# Altium integrated library Infineon Microcontroller 32-bit TriCore AURIX.IntLib: 81 symbols (part 3 of 8)
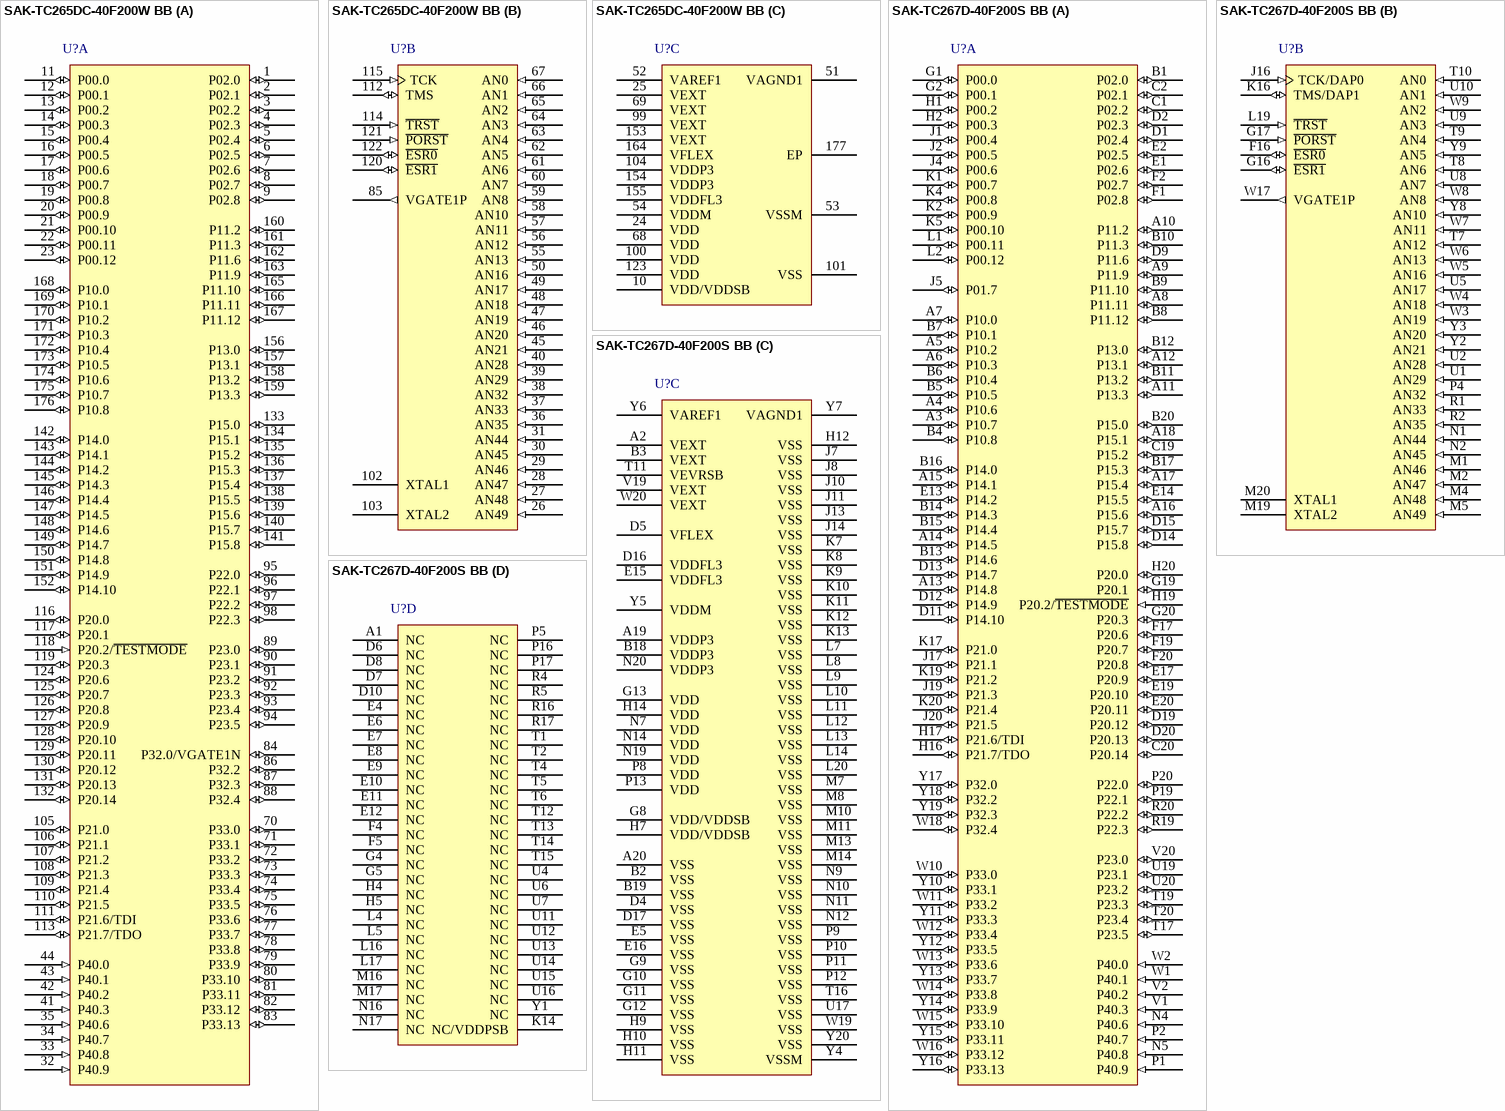
[diagram p37: symbols SAK-TC265DC-40F200W BB to SAK-TC267D-40F200S BB]

## SAK-TC267D-40F200S BB
designator U?
32-bit multi-core TriCore AURIX microcontroller with 240 KB SRAM, 2.5 MB Flash, 200 MHz Frequency, -40 to 125 degC, PG-LFBGA-292; Manufacturer: Infineon; ADC Chan.: 50; CAN FD: Yes; Core 0 TC16E DSPR (KB): 72; Core 0 TC16E PSPR (KB): 16; Core 1&2 TC16P DSPR (KB): 120; Core 1&2 TC16P PSPR (KB): 32; EEPROM (KB): 96 @125k; Flash (MB): 2.5; Freq. (MHz): 200; Total SRAM (KB): 240; Derivative: SAK-TC267D-40F200S BB; DatasheetVersion: Rev. 0.6; PackageReference: PG-LFBGA-292-6; PackageDescription: 292-Pin Plastic (Green) Low Profile Fine Pitch Ball Grid Array Package, 17 x 17 mm Body, 0.8 mm Pitch; Supplier 1: Mouser; Supplier Part Number 1: 726-TC267D40F200SBBK; ETH: Yes; Standby Ctrl: Yes; Supplier Part Reference: TC267D40F200SBBKXUMA1; Mounting Technology: Surface Mount; PartNumber: SAK-TC267D-40F200S BB; ComponentLink1Description: Manufacturer URL; ComponentLink1URL: http://www.infineon.com/
footprint INF-PG-LFBGA-292-6 (BGA, 292-Balls, Body 17x17mm, Pitch 0.8mm)
part A pins: A3 P10.7 (io), A4 P10.6 (io), A5 P10.2 (io), A6 P10.3 (io), A7 P10.0 (io), A8 P11.11 (io), A9 P11.9 (io), A10 P11.2 (io), A11 P13.3 (io), A12 P13.1 (io), A13 P14.8 (io), A14 P14.5 (io), A15 P14.1 (io), A16 P15.6 (io), A17 P15.4 (io), A18 P15.1 (io), B1 P02.0 (io), B4 P10.8 (io), B5 P10.5 (io), B6 P10.4 (io), B7 P10.1 (io), B8 P11.12 (io), B9 P11.10 (io), B10 P11.3 (io), B11 P13.2 (io), B12 P13.0 (io), B13 P14.6 (io), B14 P14.3 (io), B15 P14.4 (io), B16 P14.0 (io), B17 P15.3 (io), B20 P15.0 (io), C1 P02.2 (io), C2 P02.1 (io), C19 P15.2 (io), C20 P20.14 (io), D1 P02.4 (io), D2 P02.3 (io), D9 P11.6 (io), D11 P14.10 (io), D12 P14.9 (io), D13 P14.7 (io), D14 P15.8 (io), D15 P15.7 (io), D19 P20.12 (io), D20 P20.13 (io), E1 P02.6 (io), E2 P02.5 (io), E13 P14.2 (io), E14 P15.5 (io), E17 P20.9 (io), E19 P20.10 (io), E20 P20.11 (io), F1 P02.8 (io), F2 P02.7 (io), F17 P20.6 (io), F19 P20.7 (io), F20 P20.8 (io), G1 P00.0 (io), G2 P00.1 (io), G19 P20.1 (io), G20 P20.3 (io), H1 P00.2 (io), H2 P00.3 (io), H16 P21.7/TDO (io), H17 P21.6/TDI (io), H19 P20.2/~{TESTMODE} (in), H20 P20.0 (io), J1 P00.4 (io), J2 P00.5 (io), J4 P00.6 (io), J5 P01.7 (io), J17 P21.1 (io), J19 P21.3 (io), J20 P21.5 (io), K1 P00.7 (io), K2 P00.9 (io), K4 P00.8 (io), K5 P00.10 (io), K17 P21.0 (io), K19 P21.2 (io), K20 P21.4 (io), L1 P00.11 (io), L2 P00.12 (io), N4 P40.6 (in), N5 P40.8 (in), P1 P40.9 (in), P2 P40.7 (in), P19 P22.1 (io), P20 P22.0 (io), R19 P22.3 (io), R20 P22.2 (io), T17 P23.5 (io), T19 P23.3 (io), T20 P23.4 (io), U19 P23.1 (io), U20 P23.2 (io), V1 P40.3 (in), V2 P40.2 (in), V20 P23.0 (io), W1 P40.1 (in), W2 P40.0 (in), W10 P33.0 (io), W11 P33.2 (io), W12 P33.4 (io), W13 P33.6 (io), W14 P33.8 (io), W15 P33.10 (io), W16 P33.12 (io), W18 P32.4 (io), Y10 P33.1 (io), Y11 P33.3 (io), Y12 P33.5 (io), Y13 P33.7 (io), Y14 P33.9 (io), Y15 P33.11 (io), Y16 P33.13 (io), Y17 P32.0 (io), Y18 P32.2 (io), Y19 P32.3 (io)
part B pins: F16 ~{ESR0} (io), G16 ~{ESR1} (io), G17 ~{PORST} (in), J16 TCK/DAP0 (in), K16 TMS/DAP1 (io), L19 ~{TRST} (in), M1 AN46 (in), M2 AN47 (in), M4 AN48 (in), M5 AN49 (in), M19 XTAL2, M20 XTAL1, N1 AN44 (in), N2 AN45 (in), P4 AN32 (in), R1 AN33 (in), R2 AN35 (in), T7 AN12 (in), T8 AN6 (in), T9 AN4 (in), T10 AN0 (in), U1 AN29 (in), U2 AN28 (in), U5 AN17 (in), U8 AN7 (in), U9 AN3 (in), U10 AN1 (in), W3 AN19 (in), W4 AN18 (in), W5 AN16 (in), W6 AN13 (in), W7 AN11 (in), W8 AN8 (in), W9 AN2 (in), W17 VGATE1P (out), Y2 AN21 (in), Y3 AN20 (in), Y8 AN10 (in), Y9 AN5 (in)
part C pins: A2 VEXT (power), A19 VDDP3 (power), A20 VSS (power), B2 VSS (power), B3 VEXT (power), B18 VDDP3 (power), B19 VSS (power), D4 VSS (power), D5 VFLEX (power), D16 VDDFL3 (power), D17 VSS (power), E5 VSS (power), E15 VDDFL3 (power), E16 VSS (power), G8 VDD/VDDSB (power), G9 VSS (power), G10 VSS (power), G11 VSS (power), G12 VSS (power), G13 VDD (power), H7 VDD/VDDSB (power), H9 VSS (power), H10 VSS (power), H11 VSS (power), H12 VSS (power), H14 VDD (power), J7 VSS (power), J8 VSS (power), J10 VSS (power), J11 VSS (power), J13 VSS (power), J14 VSS (power), K7 VSS (power), K8 VSS (power), K9 VSS (power), K10 VSS (power), K11 VSS (power), K12 VSS (power), K13 VSS (power), L7 VSS (power), L8 VSS (power), L9 VSS (power), L10 VSS (power), L11 VSS (power), L12 VSS (power), L13 VSS (power), L14 VSS (power), L20 VSS (power), M7 VSS (power), M8 VSS (power), M10 VSS (power), M11 VSS (power), M13 VSS (power), M14 VSS (power), N7 VDD (power), N9 VSS (power), N10 VSS (power), N11 VSS (power), N12 VSS (power), N14 VDD (power), N19 VDD (power), N20 VDDP3 (power), P8 VDD (power), P9 VSS (power), P10 VSS (power), P11 VSS (power), P12 VSS (power), P13 VDD (power), T11 VEVRSB (power), T16 VSS (power), U17 VSS (power), V19 VEXT (power), W19 VSS (power), W20 VEXT (power), Y4 VSSM (power), Y5 VDDM (power), Y6 VAREF1 (power), Y7 VAGND1 (power), Y20 VSS (power)
part D pins: A1 NC, D6 NC, D7 NC, D8 NC, D10 NC, E4 NC, E6 NC, E7 NC, E8 NC, E9 NC, E10 NC, E11 NC, E12 NC, F4 NC, F5 NC, G4 NC, G5 NC, H4 NC, H5 NC, K14 NC/VDDPSB, L4 NC, L5 NC, L16 NC, L17 NC, M16 NC, M17 NC, N16 NC, N17 NC, P5 NC, P16 NC, P17 NC, R4 NC, R5 NC, R16 NC, R17 NC, T1 NC, T2 NC, T4 NC, T5 NC, T6 NC, T12 NC, T13 NC, T14 NC, T15 NC, U4 NC, U6 NC, U7 NC, U11 NC, U12 NC, U13 NC, U14 NC, U15 NC, U16 NC, Y1 NC

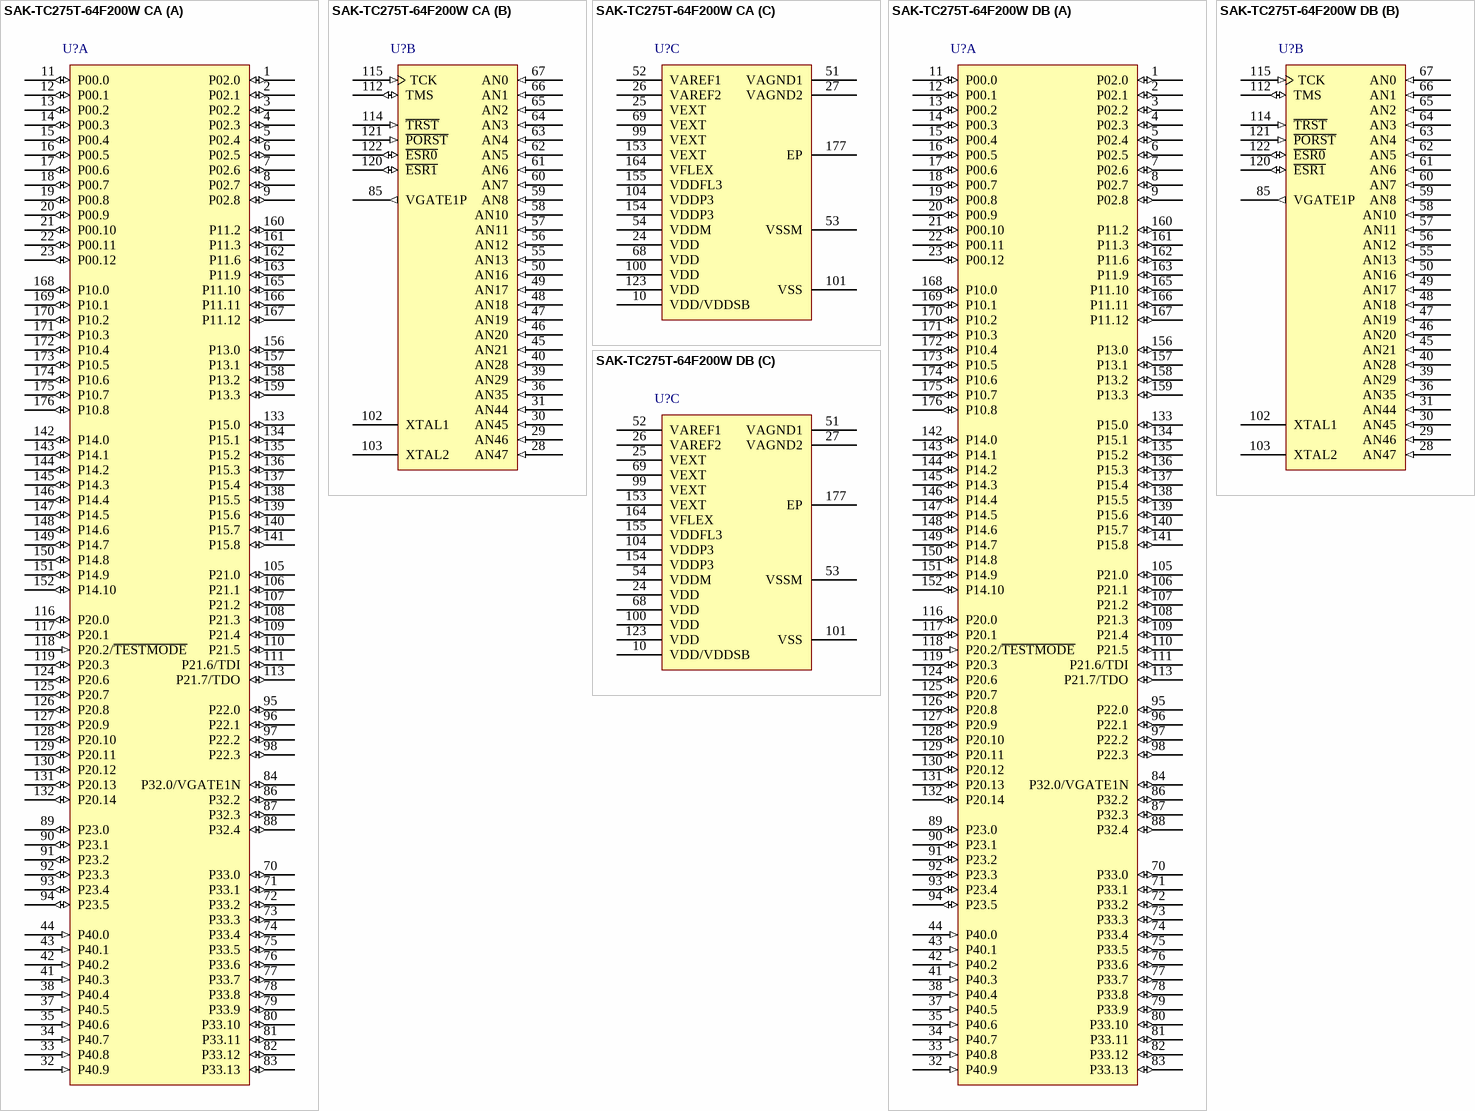
[diagram p11: symbols SAK-TC275T-64F200W CA to SAK-TC275T-64F200W DB]

## SAK-TC275T-64F200W CA
designator U?
32-bit multi-core TriCore AURIX microcontroller with 472 KB SRAM, 4 MB Flash, 200 MHz Frequency, -40 to 125 degC, PG-LQFP-176; Manufacturer: Infineon; ADC Chan.: 48; CAN FD: Yes; Core 0 TC16E DSPR (KB): 112; Core 0 TC16E PSPR (KB): 24; Core 1&2 TC16P DSPR (KB): 120; Core 1&2 TC16P PSPR (KB): 32; EEPROM (KB): 64 @ 500k; Flash (MB): 4; FlexRay (#/ch.): 1 / 2; Freq. (MHz): 200; HSM: No; Total SRAM (KB): 472; Derivative: SAK-TC275T-64F200W CA; DatasheetVersion: Rev. 0.71; PackageReference: PG-LQFP-176-22; PackageDescription: 176-Pin Plastic (Green) Low Profile Quad Flat Package, 24 x 24 mm Body, 0.5 mm Pitch; Supplier 1: Mouser; Supplier Part Number 1: 726-TC275T64F200WCAK; ETH: Yes; LMU (KB): 32; Supplier Part Reference: TC275T64F200WCAKXUMA1; Mounting Technology: Surface Mount; PartNumber: SAK-TC275T-64F200W CA; ComponentLink1Description: Manufacturer URL; ComponentLink1URL: http://www.infineon.com/
footprint INF-PG-LQFP-176-22-8700X8700TP_V (QFP, 176-Leads, Body 24x24mm, Pitch 0.5mm, Thermal Pad 8.7x8.7mm)
part A pins: 1 P02.0 (io), 2 P02.1 (io), 3 P02.2 (io), 4 P02.3 (io), 5 P02.4 (io), 6 P02.5 (io), 7 P02.6 (io), 8 P02.7 (io), 9 P02.8 (io), 11 P00.0 (io), 12 P00.1 (io), 13 P00.2 (io), 14 P00.3 (io), 15 P00.4 (io), 16 P00.5 (io), 17 P00.6 (io), 18 P00.7 (io), 19 P00.8 (io), 20 P00.9 (io), 21 P00.10 (io), 22 P00.11 (io), 23 P00.12 (io), 32 P40.9 (in), 33 P40.8 (in), 34 P40.7 (in), 35 P40.6 (in), 37 P40.5 (in), 38 P40.4 (in), 41 P40.3 (in), 42 P40.2 (in), 43 P40.1 (in), 44 P40.0 (in), 70 P33.0 (io), 71 P33.1 (io), 72 P33.2 (io), 73 P33.3 (io), 74 P33.4 (io), 75 P33.5 (io), 76 P33.6 (io), 77 P33.7 (io), 78 P33.8 (io), 79 P33.9 (io), 80 P33.10 (io), 81 P33.11 (io), 82 P33.12 (io), 83 P33.13 (io), 84 P32.0/VGATE1N (io), 86 P32.2 (io), 87 P32.3 (io), 88 P32.4 (io), 89 P23.0 (io), 90 P23.1 (io), 91 P23.2 (io), 92 P23.3 (io), 93 P23.4 (io), 94 P23.5 (io), 95 P22.0 (io), 96 P22.1 (io), 97 P22.2 (io), 98 P22.3 (io), 105 P21.0 (io), 106 P21.1 (io), 107 P21.2 (io), 108 P21.3 (io), 109 P21.4 (io), 110 P21.5 (io), 111 P21.6/TDI (io), 113 P21.7/TDO (io), 116 P20.0 (io), 117 P20.1 (io), 118 P20.2/~{TESTMODE} (in), 119 P20.3 (io), 124 P20.6 (io), 125 P20.7 (io), 126 P20.8 (io), 127 P20.9 (io), 128 P20.10 (io), 129 P20.11 (io), 130 P20.12 (io), 131 P20.13 (io), 132 P20.14 (io), 133 P15.0 (io), 134 P15.1 (io), 135 P15.2 (io), 136 P15.3 (io), 137 P15.4 (io), 138 P15.5 (io), 139 P15.6 (io), 140 P15.7 (io), 141 P15.8 (io), 142 P14.0 (io), 143 P14.1 (io), 144 P14.2 (io), 145 P14.3 (io), 146 P14.4 (io), 147 P14.5 (io), 148 P14.6 (io), 149 P14.7 (io), 150 P14.8 (io), 151 P14.9 (io), 152 P14.10 (io), 156 P13.0 (io), 157 P13.1 (io), 158 P13.2 (io), 159 P13.3 (io), 160 P11.2 (io), 161 P11.3 (io), 162 P11.6 (io), 163 P11.9 (io), 165 P11.10 (io), 166 P11.11 (io), 167 P11.12 (io), 168 P10.0 (io), 169 P10.1 (io), 170 P10.2 (io), 171 P10.3 (io), 172 P10.4 (io), 173 P10.5 (io), 174 P10.6 (io), 175 P10.7 (io), 176 P10.8 (io)
part B pins: 28 AN47 (in), 29 AN46 (in), 30 AN45 (in), 31 AN44 (in), 36 AN35 (in), 39 AN29 (in), 40 AN28 (in), 45 AN21 (in), 46 AN20 (in), 47 AN19 (in), 48 AN18 (in), 49 AN17 (in), 50 AN16 (in), 55 AN13 (in), 56 AN12 (in), 57 AN11 (in), 58 AN10 (in), 59 AN8 (in), 60 AN7 (in), 61 AN6 (in), 62 AN5 (in), 63 AN4 (in), 64 AN3 (in), 65 AN2 (in), 66 AN1 (in), 67 AN0 (in), 85 VGATE1P (out), 102 XTAL1, 103 XTAL2, 112 TMS (io), 114 ~{TRST} (in), 115 TCK (in), 120 ~{ESR1} (io), 121 ~{PORST} (in), 122 ~{ESR0} (io)
part C pins: 10 VDD/VDDSB (power), 24 VDD (power), 25 VEXT (power), 26 VAREF2 (power), 27 VAGND2 (power), 51 VAGND1 (power), 52 VAREF1 (power), 53 VSSM (power), 54 VDDM (power), 68 VDD (power), 69 VEXT (power), 99 VEXT (power), 100 VDD (power), 101 VSS (power), 104 VDDP3 (power), 123 VDD (power), 153 VEXT (power), 154 VDDP3 (power), 155 VDDFL3 (power), 164 VFLEX (power), 177 EP

## SAK-TC275T-64F200W DB
designator U?
32-bit multi-core TriCore AURIX microcontroller with 472 KB SRAM, 4 MB Flash, 200 MHz Frequency, -40 to 125 degC, PG-LQFP-176; Manufacturer: Infineon; ADC Chan.: 48; CAN FD: Yes; Core 0 TC16E DSPR (KB): 112; Core 0 TC16E PSPR (KB): 24; Core 1&2 TC16P DSPR (KB): 120; Core 1&2 TC16P PSPR (KB): 32; EEPROM (KB): 64 @ 500k; Flash (MB): 4; FlexRay (#/ch.): 1 / 2; Freq. (MHz): 200; HSM: No; Total SRAM (KB): 472; Derivative: SAK-TC275T-64F200W DB; DatasheetVersion: Rev. 0.7; PackageReference: PG-LQFP-176-22; PackageDescription: 176-Pin Plastic (Green) Low Profile Quad Flat Package, 24 x 24 mm Body, 0.5 mm Pitch; ETH: Yes; LMU (KB): 32; Supplier Part Reference: TC275T64F200WDBKXUMA1; Mounting Technology: Surface Mount; PartNumber: SAK-TC275T-64F200W DB; ComponentLink1Description: Manufacturer URL; ComponentLink1URL: http://www.infineon.com/
footprint INF-PG-LQFP-176-22-8700X8700TP_V (QFP, 176-Leads, Body 24x24mm, Pitch 0.5mm, Thermal Pad 8.7x8.7mm)
part A pins: 1 P02.0 (io), 2 P02.1 (io), 3 P02.2 (io), 4 P02.3 (io), 5 P02.4 (io), 6 P02.5 (io), 7 P02.6 (io), 8 P02.7 (io), 9 P02.8 (io), 11 P00.0 (io), 12 P00.1 (io), 13 P00.2 (io), 14 P00.3 (io), 15 P00.4 (io), 16 P00.5 (io), 17 P00.6 (io), 18 P00.7 (io), 19 P00.8 (io), 20 P00.9 (io), 21 P00.10 (io), 22 P00.11 (io), 23 P00.12 (io), 32 P40.9 (in), 33 P40.8 (in), 34 P40.7 (in), 35 P40.6 (in), 37 P40.5 (in), 38 P40.4 (in), 41 P40.3 (in), 42 P40.2 (in), 43 P40.1 (in), 44 P40.0 (in), 70 P33.0 (io), 71 P33.1 (io), 72 P33.2 (io), 73 P33.3 (io), 74 P33.4 (io), 75 P33.5 (io), 76 P33.6 (io), 77 P33.7 (io), 78 P33.8 (io), 79 P33.9 (io), 80 P33.10 (io), 81 P33.11 (io), 82 P33.12 (io), 83 P33.13 (io), 84 P32.0/VGATE1N (io), 86 P32.2 (io), 87 P32.3 (io), 88 P32.4 (io), 89 P23.0 (io), 90 P23.1 (io), 91 P23.2 (io), 92 P23.3 (io), 93 P23.4 (io), 94 P23.5 (io), 95 P22.0 (io), 96 P22.1 (io), 97 P22.2 (io), 98 P22.3 (io), 105 P21.0 (io), 106 P21.1 (io), 107 P21.2 (io), 108 P21.3 (io), 109 P21.4 (io), 110 P21.5 (io), 111 P21.6/TDI (io), 113 P21.7/TDO (io), 116 P20.0 (io), 117 P20.1 (io), 118 P20.2/~{TESTMODE} (in), 119 P20.3 (io), 124 P20.6 (io), 125 P20.7 (io), 126 P20.8 (io), 127 P20.9 (io), 128 P20.10 (io), 129 P20.11 (io), 130 P20.12 (io), 131 P20.13 (io), 132 P20.14 (io), 133 P15.0 (io), 134 P15.1 (io), 135 P15.2 (io), 136 P15.3 (io), 137 P15.4 (io), 138 P15.5 (io), 139 P15.6 (io), 140 P15.7 (io), 141 P15.8 (io), 142 P14.0 (io), 143 P14.1 (io), 144 P14.2 (io), 145 P14.3 (io), 146 P14.4 (io), 147 P14.5 (io), 148 P14.6 (io), 149 P14.7 (io), 150 P14.8 (io), 151 P14.9 (io), 152 P14.10 (io), 156 P13.0 (io), 157 P13.1 (io), 158 P13.2 (io), 159 P13.3 (io), 160 P11.2 (io), 161 P11.3 (io), 162 P11.6 (io), 163 P11.9 (io), 165 P11.10 (io), 166 P11.11 (io), 167 P11.12 (io), 168 P10.0 (io), 169 P10.1 (io), 170 P10.2 (io), 171 P10.3 (io), 172 P10.4 (io), 173 P10.5 (io), 174 P10.6 (io), 175 P10.7 (io), 176 P10.8 (io)
part B pins: 28 AN47 (in), 29 AN46 (in), 30 AN45 (in), 31 AN44 (in), 36 AN35 (in), 39 AN29 (in), 40 AN28 (in), 45 AN21 (in), 46 AN20 (in), 47 AN19 (in), 48 AN18 (in), 49 AN17 (in), 50 AN16 (in), 55 AN13 (in), 56 AN12 (in), 57 AN11 (in), 58 AN10 (in), 59 AN8 (in), 60 AN7 (in), 61 AN6 (in), 62 AN5 (in), 63 AN4 (in), 64 AN3 (in), 65 AN2 (in), 66 AN1 (in), 67 AN0 (in), 85 VGATE1P (out), 102 XTAL1, 103 XTAL2, 112 TMS (io), 114 ~{TRST} (in), 115 TCK (in), 120 ~{ESR1} (io), 121 ~{PORST} (in), 122 ~{ESR0} (io)
part C pins: 10 VDD/VDDSB (power), 24 VDD (power), 25 VEXT (power), 26 VAREF2 (power), 27 VAGND2 (power), 51 VAGND1 (power), 52 VAREF1 (power), 53 VSSM (power), 54 VDDM (power), 68 VDD (power), 69 VEXT (power), 99 VEXT (power), 100 VDD (power), 101 VSS (power), 104 VDDP3 (power), 123 VDD (power), 153 VEXT (power), 154 VDDP3 (power), 155 VDDFL3 (power), 164 VFLEX (power), 177 EP

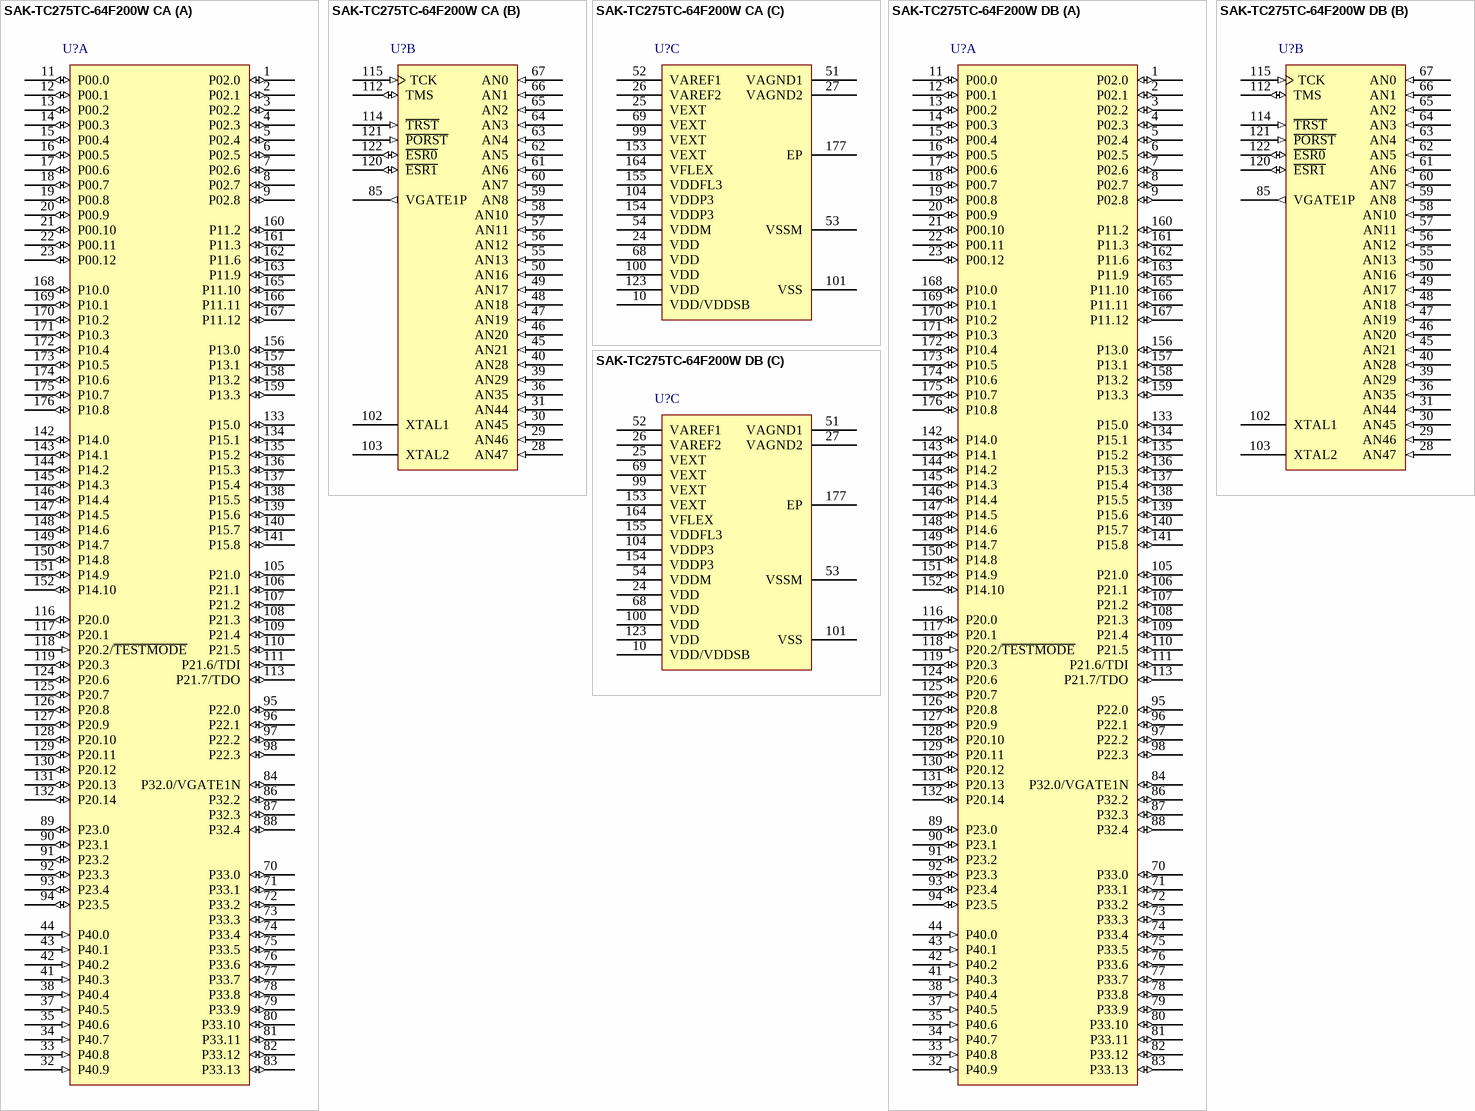
[diagram p12: symbols SAK-TC275TC-64F200W CA to SAK-TC275TC-64F200W DB]

## SAK-TC275TC-64F200W CA
designator U?
32-bit multi-core TriCore AURIX microcontroller with 424 KB SRAM, 4 MB Flash, 200 MHz Frequency, -40 to 125 degC, PG-LQFP-176; Manufacturer: Infineon; ADC Chan.: 48; CAN FD: No; Core 0 TC16E DSPR (KB): 112; Core 0 TC16E PSPR (KB): 24; Core 1&2 TC16P DSPR (KB): 120; EEPROM (KB): 24 @ 500k; Flash (MB): 4; FlexRay (#/ch.): 1 / 2; Freq. (MHz): 200; HSM: Yes; Total SRAM (KB): 424; Derivative: SAK-TC275TC-64F200W CA; DatasheetVersion: Rev. 0.71; PackageReference: PG-LQFP-176-22; PackageDescription: 176-Pin Plastic (Green) Low Profile Quad Flat Package, 24 x 24 mm Body, 0.5 mm Pitch; Core 1&2 TC16P PSPR (KB): 24; ETH: No; Supplier Part Reference: TC275TC64F200WCAKXUMA1; Mounting Technology: Surface Mount; PartNumber: SAK-TC275TC-64F200W CA; ComponentLink1Description: Manufacturer URL; ComponentLink1URL: http://www.infineon.com/
footprint INF-PG-LQFP-176-22-8700X8700TP_V (QFP, 176-Leads, Body 24x24mm, Pitch 0.5mm, Thermal Pad 8.7x8.7mm)
part A pins: 1 P02.0 (io), 2 P02.1 (io), 3 P02.2 (io), 4 P02.3 (io), 5 P02.4 (io), 6 P02.5 (io), 7 P02.6 (io), 8 P02.7 (io), 9 P02.8 (io), 11 P00.0 (io), 12 P00.1 (io), 13 P00.2 (io), 14 P00.3 (io), 15 P00.4 (io), 16 P00.5 (io), 17 P00.6 (io), 18 P00.7 (io), 19 P00.8 (io), 20 P00.9 (io), 21 P00.10 (io), 22 P00.11 (io), 23 P00.12 (io), 32 P40.9 (in), 33 P40.8 (in), 34 P40.7 (in), 35 P40.6 (in), 37 P40.5 (in), 38 P40.4 (in), 41 P40.3 (in), 42 P40.2 (in), 43 P40.1 (in), 44 P40.0 (in), 70 P33.0 (io), 71 P33.1 (io), 72 P33.2 (io), 73 P33.3 (io), 74 P33.4 (io), 75 P33.5 (io), 76 P33.6 (io), 77 P33.7 (io), 78 P33.8 (io), 79 P33.9 (io), 80 P33.10 (io), 81 P33.11 (io), 82 P33.12 (io), 83 P33.13 (io), 84 P32.0/VGATE1N (io), 86 P32.2 (io), 87 P32.3 (io), 88 P32.4 (io), 89 P23.0 (io), 90 P23.1 (io), 91 P23.2 (io), 92 P23.3 (io), 93 P23.4 (io), 94 P23.5 (io), 95 P22.0 (io), 96 P22.1 (io), 97 P22.2 (io), 98 P22.3 (io), 105 P21.0 (io), 106 P21.1 (io), 107 P21.2 (io), 108 P21.3 (io), 109 P21.4 (io), 110 P21.5 (io), 111 P21.6/TDI (io), 113 P21.7/TDO (io), 116 P20.0 (io), 117 P20.1 (io), 118 P20.2/~{TESTMODE} (in), 119 P20.3 (io), 124 P20.6 (io), 125 P20.7 (io), 126 P20.8 (io), 127 P20.9 (io), 128 P20.10 (io), 129 P20.11 (io), 130 P20.12 (io), 131 P20.13 (io), 132 P20.14 (io), 133 P15.0 (io), 134 P15.1 (io), 135 P15.2 (io), 136 P15.3 (io), 137 P15.4 (io), 138 P15.5 (io), 139 P15.6 (io), 140 P15.7 (io), 141 P15.8 (io), 142 P14.0 (io), 143 P14.1 (io), 144 P14.2 (io), 145 P14.3 (io), 146 P14.4 (io), 147 P14.5 (io), 148 P14.6 (io), 149 P14.7 (io), 150 P14.8 (io), 151 P14.9 (io), 152 P14.10 (io), 156 P13.0 (io), 157 P13.1 (io), 158 P13.2 (io), 159 P13.3 (io), 160 P11.2 (io), 161 P11.3 (io), 162 P11.6 (io), 163 P11.9 (io), 165 P11.10 (io), 166 P11.11 (io), 167 P11.12 (io), 168 P10.0 (io), 169 P10.1 (io), 170 P10.2 (io), 171 P10.3 (io), 172 P10.4 (io), 173 P10.5 (io), 174 P10.6 (io), 175 P10.7 (io), 176 P10.8 (io)
part B pins: 28 AN47 (in), 29 AN46 (in), 30 AN45 (in), 31 AN44 (in), 36 AN35 (in), 39 AN29 (in), 40 AN28 (in), 45 AN21 (in), 46 AN20 (in), 47 AN19 (in), 48 AN18 (in), 49 AN17 (in), 50 AN16 (in), 55 AN13 (in), 56 AN12 (in), 57 AN11 (in), 58 AN10 (in), 59 AN8 (in), 60 AN7 (in), 61 AN6 (in), 62 AN5 (in), 63 AN4 (in), 64 AN3 (in), 65 AN2 (in), 66 AN1 (in), 67 AN0 (in), 85 VGATE1P (out), 102 XTAL1, 103 XTAL2, 112 TMS (io), 114 ~{TRST} (in), 115 TCK (in), 120 ~{ESR1} (io), 121 ~{PORST} (in), 122 ~{ESR0} (io)
part C pins: 10 VDD/VDDSB (power), 24 VDD (power), 25 VEXT (power), 26 VAREF2 (power), 27 VAGND2 (power), 51 VAGND1 (power), 52 VAREF1 (power), 53 VSSM (power), 54 VDDM (power), 68 VDD (power), 69 VEXT (power), 99 VEXT (power), 100 VDD (power), 101 VSS (power), 104 VDDP3 (power), 123 VDD (power), 153 VEXT (power), 154 VDDP3 (power), 155 VDDFL3 (power), 164 VFLEX (power), 177 EP

## SAK-TC275TC-64F200W DB
designator U?
32-bit multi-core TriCore AURIX microcontroller with 424 KB SRAM, 4 MB Flash, 200 MHz Frequency, -40 to 125 degC, PG-LQFP-176; Manufacturer: Infineon; ADC Chan.: 48; CAN FD: No; Core 0 TC16E DSPR (KB): 112; Core 0 TC16E PSPR (KB): 24; Core 1&2 TC16P DSPR (KB): 120; EEPROM (KB): 24 @ 500k; Flash (MB): 4; FlexRay (#/ch.): 1 / 2; Freq. (MHz): 200; HSM: Yes; Total SRAM (KB): 424; Derivative: SAK-TC275TC-64F200W DB; DatasheetVersion: Rev. 0.7; PackageReference: PG-LQFP-176-22; PackageDescription: 176-Pin Plastic (Green) Low Profile Quad Flat Package, 24 x 24 mm Body, 0.5 mm Pitch; Core 1&2 TC16P PSPR (KB): 24; ETH: No; Supplier Part Reference: TC275TC64F200WDBKXUMA1; Mounting Technology: Surface Mount; PartNumber: SAK-TC275TC-64F200W DB; ComponentLink1Description: Manufacturer URL; ComponentLink1URL: http://www.infineon.com/
footprint INF-PG-LQFP-176-22-8700X8700TP_V (QFP, 176-Leads, Body 24x24mm, Pitch 0.5mm, Thermal Pad 8.7x8.7mm)
part A pins: 1 P02.0 (io), 2 P02.1 (io), 3 P02.2 (io), 4 P02.3 (io), 5 P02.4 (io), 6 P02.5 (io), 7 P02.6 (io), 8 P02.7 (io), 9 P02.8 (io), 11 P00.0 (io), 12 P00.1 (io), 13 P00.2 (io), 14 P00.3 (io), 15 P00.4 (io), 16 P00.5 (io), 17 P00.6 (io), 18 P00.7 (io), 19 P00.8 (io), 20 P00.9 (io), 21 P00.10 (io), 22 P00.11 (io), 23 P00.12 (io), 32 P40.9 (in), 33 P40.8 (in), 34 P40.7 (in), 35 P40.6 (in), 37 P40.5 (in), 38 P40.4 (in), 41 P40.3 (in), 42 P40.2 (in), 43 P40.1 (in), 44 P40.0 (in), 70 P33.0 (io), 71 P33.1 (io), 72 P33.2 (io), 73 P33.3 (io), 74 P33.4 (io), 75 P33.5 (io), 76 P33.6 (io), 77 P33.7 (io), 78 P33.8 (io), 79 P33.9 (io), 80 P33.10 (io), 81 P33.11 (io), 82 P33.12 (io), 83 P33.13 (io), 84 P32.0/VGATE1N (io), 86 P32.2 (io), 87 P32.3 (io), 88 P32.4 (io), 89 P23.0 (io), 90 P23.1 (io), 91 P23.2 (io), 92 P23.3 (io), 93 P23.4 (io), 94 P23.5 (io), 95 P22.0 (io), 96 P22.1 (io), 97 P22.2 (io), 98 P22.3 (io), 105 P21.0 (io), 106 P21.1 (io), 107 P21.2 (io), 108 P21.3 (io), 109 P21.4 (io), 110 P21.5 (io), 111 P21.6/TDI (io), 113 P21.7/TDO (io), 116 P20.0 (io), 117 P20.1 (io), 118 P20.2/~{TESTMODE} (in), 119 P20.3 (io), 124 P20.6 (io), 125 P20.7 (io), 126 P20.8 (io), 127 P20.9 (io), 128 P20.10 (io), 129 P20.11 (io), 130 P20.12 (io), 131 P20.13 (io), 132 P20.14 (io), 133 P15.0 (io), 134 P15.1 (io), 135 P15.2 (io), 136 P15.3 (io), 137 P15.4 (io), 138 P15.5 (io), 139 P15.6 (io), 140 P15.7 (io), 141 P15.8 (io), 142 P14.0 (io), 143 P14.1 (io), 144 P14.2 (io), 145 P14.3 (io), 146 P14.4 (io), 147 P14.5 (io), 148 P14.6 (io), 149 P14.7 (io), 150 P14.8 (io), 151 P14.9 (io), 152 P14.10 (io), 156 P13.0 (io), 157 P13.1 (io), 158 P13.2 (io), 159 P13.3 (io), 160 P11.2 (io), 161 P11.3 (io), 162 P11.6 (io), 163 P11.9 (io), 165 P11.10 (io), 166 P11.11 (io), 167 P11.12 (io), 168 P10.0 (io), 169 P10.1 (io), 170 P10.2 (io), 171 P10.3 (io), 172 P10.4 (io), 173 P10.5 (io), 174 P10.6 (io), 175 P10.7 (io), 176 P10.8 (io)
part B pins: 28 AN47 (in), 29 AN46 (in), 30 AN45 (in), 31 AN44 (in), 36 AN35 (in), 39 AN29 (in), 40 AN28 (in), 45 AN21 (in), 46 AN20 (in), 47 AN19 (in), 48 AN18 (in), 49 AN17 (in), 50 AN16 (in), 55 AN13 (in), 56 AN12 (in), 57 AN11 (in), 58 AN10 (in), 59 AN8 (in), 60 AN7 (in), 61 AN6 (in), 62 AN5 (in), 63 AN4 (in), 64 AN3 (in), 65 AN2 (in), 66 AN1 (in), 67 AN0 (in), 85 VGATE1P (out), 102 XTAL1, 103 XTAL2, 112 TMS (io), 114 ~{TRST} (in), 115 TCK (in), 120 ~{ESR1} (io), 121 ~{PORST} (in), 122 ~{ESR0} (io)
part C pins: 10 VDD/VDDSB (power), 24 VDD (power), 25 VEXT (power), 26 VAREF2 (power), 27 VAGND2 (power), 51 VAGND1 (power), 52 VAREF1 (power), 53 VSSM (power), 54 VDDM (power), 68 VDD (power), 69 VEXT (power), 99 VEXT (power), 100 VDD (power), 101 VSS (power), 104 VDDP3 (power), 123 VDD (power), 153 VEXT (power), 154 VDDP3 (power), 155 VDDFL3 (power), 164 VFLEX (power), 177 EP

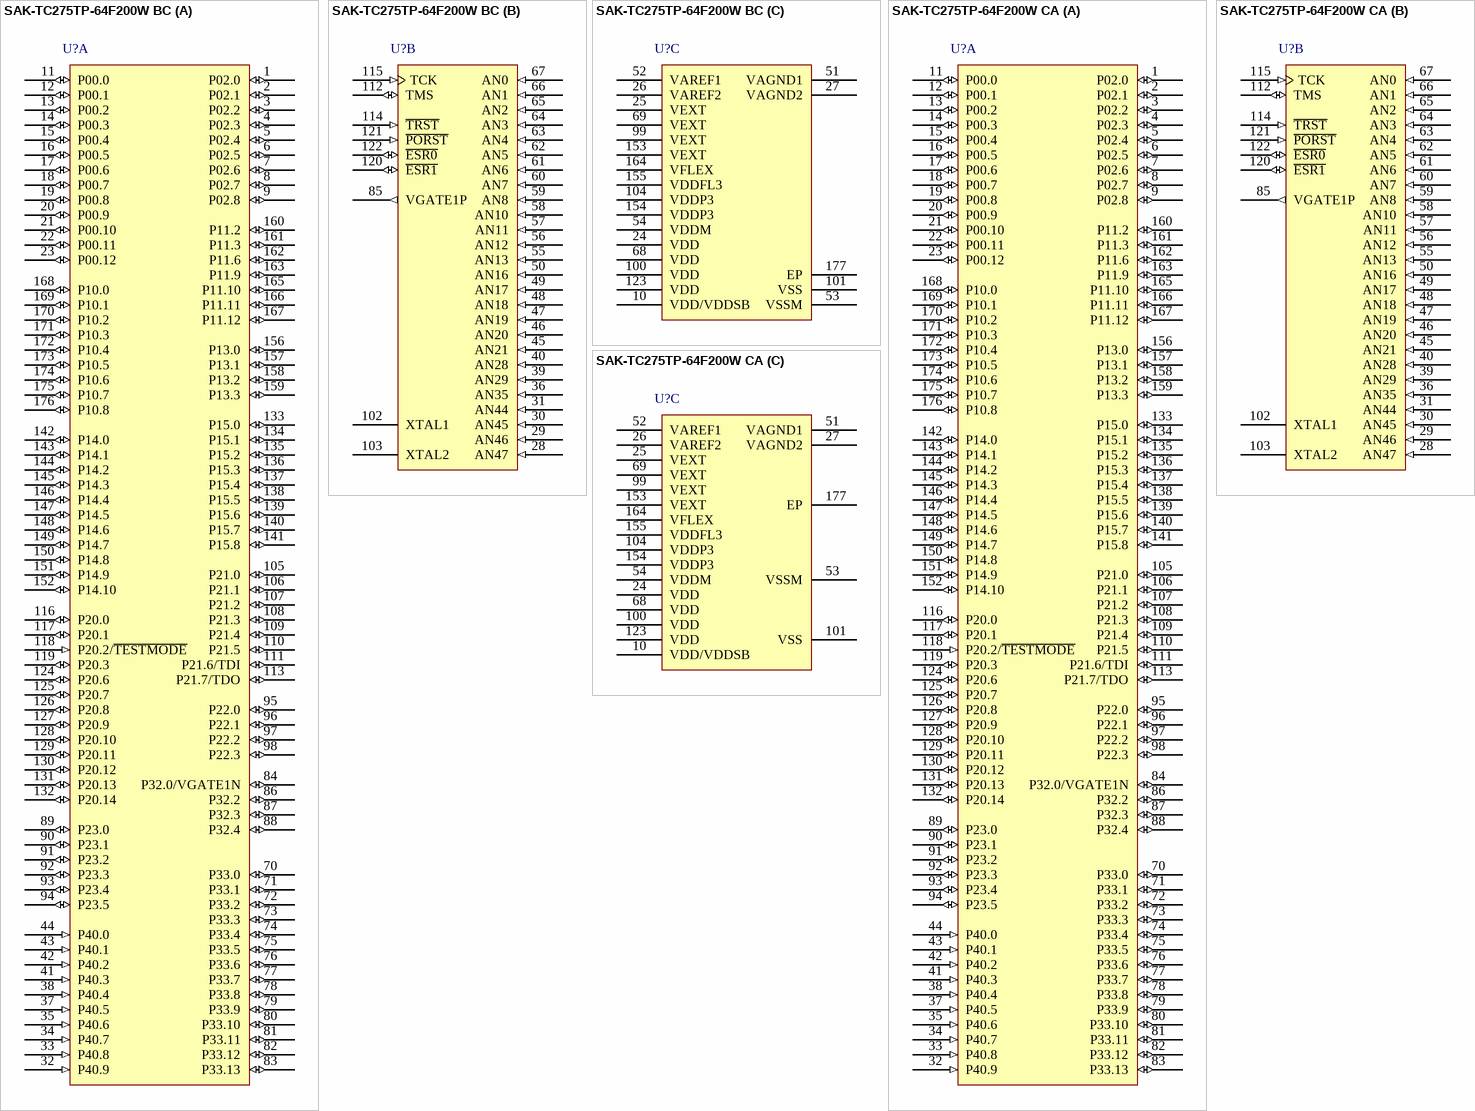
[diagram p13: symbols SAK-TC275TP-64F200W BC to SAK-TC275TP-64F200W CA]

## SAK-TC275TP-64F200W BC
designator U?
32-bit multi-core TriCore AURIX microcontroller with 472 KB SRAM, 4 MB Flash, 200 MHz Frequency, -40 to 125 degC, PG-LQFP-176; Manufacturer: Infineon; ADC Chan.: 48; CAN FD: No; Core 0 TC16E DSPR (KB): 112; Core 0 TC16E PSPR (KB): 24; Core 1&2 TC16P DSPR (KB): 120; Core 1&2 TC16P PSPR (KB): 32; EEPROM (KB): 64 @ 500k; ETH: Yes; Flash (MB): 4; FlexRay (#/ch.): 1 / 2; Freq. (MHz): 200; Total SRAM (KB): 472; Derivative: SAK-TC275TP-64F200W BC; DatasheetVersion: Rev. 0.71; PackageReference: PG-LQFP-176-22; PackageDescription: 176-Pin Plastic (Green) Low Profile Quad Flat Package, 24 x 24 mm Body, 0.5 mm Pitch; Supplier 1: Mouser; Supplier Part Number 1: N/A; HSM: Yes; LMU (KB): 32; Supplier Part Reference: TC275TP64F200WBCKXUMA1; Mounting Technology: Surface Mount; PartNumber: SAK-TC275TP-64F200W BC; ComponentLink1Description: Manufacturer URL; ComponentLink1URL: http://www.infineon.com/
footprint INF-PG-LQFP-176-22-8700X8700TP_V (QFP, 176-Leads, Body 24x24mm, Pitch 0.5mm, Thermal Pad 8.7x8.7mm)
part A pins: 1 P02.0 (io), 2 P02.1 (io), 3 P02.2 (io), 4 P02.3 (io), 5 P02.4 (io), 6 P02.5 (io), 7 P02.6 (io), 8 P02.7 (io), 9 P02.8 (io), 11 P00.0 (io), 12 P00.1 (io), 13 P00.2 (io), 14 P00.3 (io), 15 P00.4 (io), 16 P00.5 (io), 17 P00.6 (io), 18 P00.7 (io), 19 P00.8 (io), 20 P00.9 (io), 21 P00.10 (io), 22 P00.11 (io), 23 P00.12 (io), 32 P40.9 (in), 33 P40.8 (in), 34 P40.7 (in), 35 P40.6 (in), 37 P40.5 (in), 38 P40.4 (in), 41 P40.3 (in), 42 P40.2 (in), 43 P40.1 (in), 44 P40.0 (in), 70 P33.0 (io), 71 P33.1 (io), 72 P33.2 (io), 73 P33.3 (io), 74 P33.4 (io), 75 P33.5 (io), 76 P33.6 (io), 77 P33.7 (io), 78 P33.8 (io), 79 P33.9 (io), 80 P33.10 (io), 81 P33.11 (io), 82 P33.12 (io), 83 P33.13 (io), 84 P32.0/VGATE1N (io), 86 P32.2 (io), 87 P32.3 (io), 88 P32.4 (io), 89 P23.0 (io), 90 P23.1 (io), 91 P23.2 (io), 92 P23.3 (io), 93 P23.4 (io), 94 P23.5 (io), 95 P22.0 (io), 96 P22.1 (io), 97 P22.2 (io), 98 P22.3 (io), 105 P21.0 (io), 106 P21.1 (io), 107 P21.2 (io), 108 P21.3 (io), 109 P21.4 (io), 110 P21.5 (io), 111 P21.6/TDI (io), 113 P21.7/TDO (io), 116 P20.0 (io), 117 P20.1 (io), 118 P20.2/~{TESTMODE} (in), 119 P20.3 (io), 124 P20.6 (io), 125 P20.7 (io), 126 P20.8 (io), 127 P20.9 (io), 128 P20.10 (io), 129 P20.11 (io), 130 P20.12 (io), 131 P20.13 (io), 132 P20.14 (io), 133 P15.0 (io), 134 P15.1 (io), 135 P15.2 (io), 136 P15.3 (io), 137 P15.4 (io), 138 P15.5 (io), 139 P15.6 (io), 140 P15.7 (io), 141 P15.8 (io), 142 P14.0 (io), 143 P14.1 (io), 144 P14.2 (io), 145 P14.3 (io), 146 P14.4 (io), 147 P14.5 (io), 148 P14.6 (io), 149 P14.7 (io), 150 P14.8 (io), 151 P14.9 (io), 152 P14.10 (io), 156 P13.0 (io), 157 P13.1 (io), 158 P13.2 (io), 159 P13.3 (io), 160 P11.2 (io), 161 P11.3 (io), 162 P11.6 (io), 163 P11.9 (io), 165 P11.10 (io), 166 P11.11 (io), 167 P11.12 (io), 168 P10.0 (io), 169 P10.1 (io), 170 P10.2 (io), 171 P10.3 (io), 172 P10.4 (io), 173 P10.5 (io), 174 P10.6 (io), 175 P10.7 (io), 176 P10.8 (io)
part B pins: 28 AN47 (in), 29 AN46 (in), 30 AN45 (in), 31 AN44 (in), 36 AN35 (in), 39 AN29 (in), 40 AN28 (in), 45 AN21 (in), 46 AN20 (in), 47 AN19 (in), 48 AN18 (in), 49 AN17 (in), 50 AN16 (in), 55 AN13 (in), 56 AN12 (in), 57 AN11 (in), 58 AN10 (in), 59 AN8 (in), 60 AN7 (in), 61 AN6 (in), 62 AN5 (in), 63 AN4 (in), 64 AN3 (in), 65 AN2 (in), 66 AN1 (in), 67 AN0 (in), 85 VGATE1P (out), 102 XTAL1, 103 XTAL2, 112 TMS (io), 114 ~{TRST} (in), 115 TCK (in), 120 ~{ESR1} (io), 121 ~{PORST} (in), 122 ~{ESR0} (io)
part C pins: 10 VDD/VDDSB (power), 24 VDD (power), 25 VEXT (power), 26 VAREF2 (power), 27 VAGND2 (power), 51 VAGND1 (power), 52 VAREF1 (power), 53 VSSM (power), 54 VDDM (power), 68 VDD (power), 69 VEXT (power), 99 VEXT (power), 100 VDD (power), 101 VSS (power), 104 VDDP3 (power), 123 VDD (power), 153 VEXT (power), 154 VDDP3 (power), 155 VDDFL3 (power), 164 VFLEX (power), 177 EP

## SAK-TC275TP-64F200W CA
designator U?
32-bit multi-core TriCore AURIX microcontroller with 472 KB SRAM, 4 MB Flash, 200 MHz Frequency, -40 to 125 degC, PG-LQFP-176; Manufacturer: Infineon; ADC Chan.: 48; CAN FD: Yes; Core 0 TC16E DSPR (KB): 112; Core 0 TC16E PSPR (KB): 24; Core 1&2 TC16P DSPR (KB): 120; Core 1&2 TC16P PSPR (KB): 32; EEPROM (KB): 64 @ 500k; Flash (MB): 4; FlexRay (#/ch.): 1 / 2; Freq. (MHz): 200; Total SRAM (KB): 472; Derivative: SAK-TC275TP-64F200W CA; DatasheetVersion: Rev. 0.71; PackageReference: PG-LQFP-176-22; PackageDescription: 176-Pin Plastic (Green) Low Profile Quad Flat Package, 24 x 24 mm Body, 0.5 mm Pitch; Supplier 1: Mouser; Supplier Part Number 1: 726-TC275TP64F200WCA; Supplier 2: Digi-Key; Supplier Part Number 2: TC275TP64F200WCAKXUMA1TR-ND; Supplier 3: Digi-Key; Supplier Part Number 3: TC275TP64F200WCAKXUMA1CT-ND; Supplier 4: Digi-Key; Supplier Part Number 4: TC275TP64F200WCAKXUMA1DKR-ND; ETH: Yes; HSM: Yes; LMU (KB): 32; Supplier Part Reference: TC275TP64F200WCAKXUMA1; Mounting Technology: Surface Mount; PartNumber: SAK-TC275TP-64F200W CA; ComponentLink1Description: Manufacturer URL; ComponentLink1URL: http://www.infineon.com/
footprint INF-PG-LQFP-176-22-8700X8700TP_V (QFP, 176-Leads, Body 24x24mm, Pitch 0.5mm, Thermal Pad 8.7x8.7mm)
part A pins: 1 P02.0 (io), 2 P02.1 (io), 3 P02.2 (io), 4 P02.3 (io), 5 P02.4 (io), 6 P02.5 (io), 7 P02.6 (io), 8 P02.7 (io), 9 P02.8 (io), 11 P00.0 (io), 12 P00.1 (io), 13 P00.2 (io), 14 P00.3 (io), 15 P00.4 (io), 16 P00.5 (io), 17 P00.6 (io), 18 P00.7 (io), 19 P00.8 (io), 20 P00.9 (io), 21 P00.10 (io), 22 P00.11 (io), 23 P00.12 (io), 32 P40.9 (in), 33 P40.8 (in), 34 P40.7 (in), 35 P40.6 (in), 37 P40.5 (in), 38 P40.4 (in), 41 P40.3 (in), 42 P40.2 (in), 43 P40.1 (in), 44 P40.0 (in), 70 P33.0 (io), 71 P33.1 (io), 72 P33.2 (io), 73 P33.3 (io), 74 P33.4 (io), 75 P33.5 (io), 76 P33.6 (io), 77 P33.7 (io), 78 P33.8 (io), 79 P33.9 (io), 80 P33.10 (io), 81 P33.11 (io), 82 P33.12 (io), 83 P33.13 (io), 84 P32.0/VGATE1N (io), 86 P32.2 (io), 87 P32.3 (io), 88 P32.4 (io), 89 P23.0 (io), 90 P23.1 (io), 91 P23.2 (io), 92 P23.3 (io), 93 P23.4 (io), 94 P23.5 (io), 95 P22.0 (io), 96 P22.1 (io), 97 P22.2 (io), 98 P22.3 (io), 105 P21.0 (io), 106 P21.1 (io), 107 P21.2 (io), 108 P21.3 (io), 109 P21.4 (io), 110 P21.5 (io), 111 P21.6/TDI (io), 113 P21.7/TDO (io), 116 P20.0 (io), 117 P20.1 (io), 118 P20.2/~{TESTMODE} (in), 119 P20.3 (io), 124 P20.6 (io), 125 P20.7 (io), 126 P20.8 (io), 127 P20.9 (io), 128 P20.10 (io), 129 P20.11 (io), 130 P20.12 (io), 131 P20.13 (io), 132 P20.14 (io), 133 P15.0 (io), 134 P15.1 (io), 135 P15.2 (io), 136 P15.3 (io), 137 P15.4 (io), 138 P15.5 (io), 139 P15.6 (io), 140 P15.7 (io), 141 P15.8 (io), 142 P14.0 (io), 143 P14.1 (io), 144 P14.2 (io), 145 P14.3 (io), 146 P14.4 (io), 147 P14.5 (io), 148 P14.6 (io), 149 P14.7 (io), 150 P14.8 (io), 151 P14.9 (io), 152 P14.10 (io), 156 P13.0 (io), 157 P13.1 (io), 158 P13.2 (io), 159 P13.3 (io), 160 P11.2 (io), 161 P11.3 (io), 162 P11.6 (io), 163 P11.9 (io), 165 P11.10 (io), 166 P11.11 (io), 167 P11.12 (io), 168 P10.0 (io), 169 P10.1 (io), 170 P10.2 (io), 171 P10.3 (io), 172 P10.4 (io), 173 P10.5 (io), 174 P10.6 (io), 175 P10.7 (io), 176 P10.8 (io)
part B pins: 28 AN47 (in), 29 AN46 (in), 30 AN45 (in), 31 AN44 (in), 36 AN35 (in), 39 AN29 (in), 40 AN28 (in), 45 AN21 (in), 46 AN20 (in), 47 AN19 (in), 48 AN18 (in), 49 AN17 (in), 50 AN16 (in), 55 AN13 (in), 56 AN12 (in), 57 AN11 (in), 58 AN10 (in), 59 AN8 (in), 60 AN7 (in), 61 AN6 (in), 62 AN5 (in), 63 AN4 (in), 64 AN3 (in), 65 AN2 (in), 66 AN1 (in), 67 AN0 (in), 85 VGATE1P (out), 102 XTAL1, 103 XTAL2, 112 TMS (io), 114 ~{TRST} (in), 115 TCK (in), 120 ~{ESR1} (io), 121 ~{PORST} (in), 122 ~{ESR0} (io)
part C pins: 10 VDD/VDDSB (power), 24 VDD (power), 25 VEXT (power), 26 VAREF2 (power), 27 VAGND2 (power), 51 VAGND1 (power), 52 VAREF1 (power), 53 VSSM (power), 54 VDDM (power), 68 VDD (power), 69 VEXT (power), 99 VEXT (power), 100 VDD (power), 101 VSS (power), 104 VDDP3 (power), 123 VDD (power), 153 VEXT (power), 154 VDDP3 (power), 155 VDDFL3 (power), 164 VFLEX (power), 177 EP

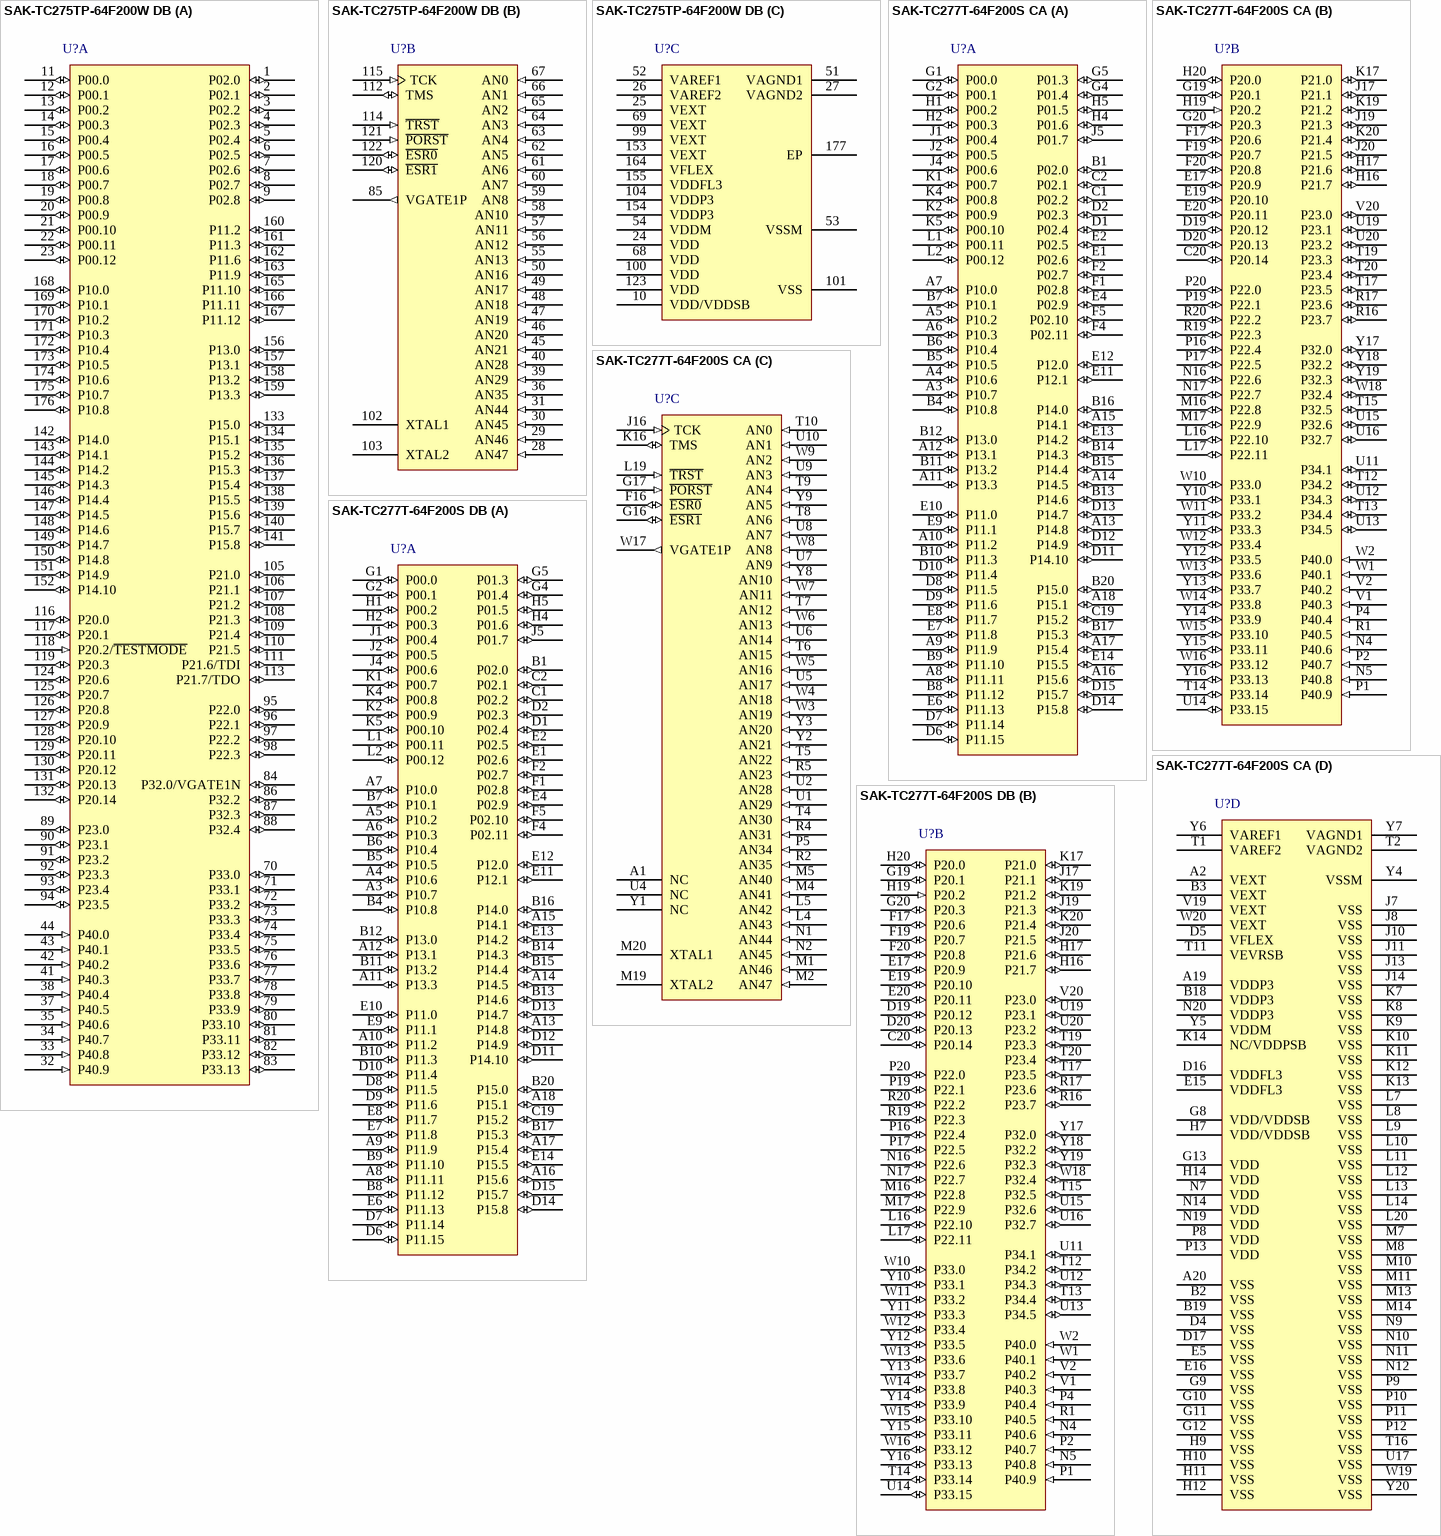
[diagram p14: symbols SAK-TC275TP-64F200W DB to SAK-TC277T-64F200S DB]

## SAK-TC275TP-64F200W DB
designator U?
32-bit multi-core TriCore AURIX microcontroller with 472 KB SRAM, 4 MB Flash, 200 MHz Frequency, -40 to 125 degC, PG-LQFP-176; Manufacturer: Infineon; ADC Chan.: 48; CAN FD: Yes; Core 0 TC16E DSPR (KB): 112; Core 0 TC16E PSPR (KB): 24; Core 1&2 TC16P DSPR (KB): 120; Core 1&2 TC16P PSPR (KB): 32; EEPROM (KB): 64 @ 500k; Flash (MB): 4; FlexRay (#/ch.): 1 / 2; Freq. (MHz): 200; Total SRAM (KB): 472; Derivative: SAK-TC275TP-64F200W DB; DatasheetVersion: Rev. 0.7; PackageReference: PG-LQFP-176-22; PackageDescription: 176-Pin Plastic (Green) Low Profile Quad Flat Package, 24 x 24 mm Body, 0.5 mm Pitch; ETH: Yes; HSM: Yes; LMU (KB): 32; Supplier Part Reference: TC275TP64F200WDBKXUMA1; Mounting Technology: Surface Mount; PartNumber: SAK-TC275TP-64F200W DB; ComponentLink1Description: Manufacturer URL; ComponentLink1URL: http://www.infineon.com/
footprint INF-PG-LQFP-176-22-8700X8700TP_V (QFP, 176-Leads, Body 24x24mm, Pitch 0.5mm, Thermal Pad 8.7x8.7mm)
part A pins: 1 P02.0 (io), 2 P02.1 (io), 3 P02.2 (io), 4 P02.3 (io), 5 P02.4 (io), 6 P02.5 (io), 7 P02.6 (io), 8 P02.7 (io), 9 P02.8 (io), 11 P00.0 (io), 12 P00.1 (io), 13 P00.2 (io), 14 P00.3 (io), 15 P00.4 (io), 16 P00.5 (io), 17 P00.6 (io), 18 P00.7 (io), 19 P00.8 (io), 20 P00.9 (io), 21 P00.10 (io), 22 P00.11 (io), 23 P00.12 (io), 32 P40.9 (in), 33 P40.8 (in), 34 P40.7 (in), 35 P40.6 (in), 37 P40.5 (in), 38 P40.4 (in), 41 P40.3 (in), 42 P40.2 (in), 43 P40.1 (in), 44 P40.0 (in), 70 P33.0 (io), 71 P33.1 (io), 72 P33.2 (io), 73 P33.3 (io), 74 P33.4 (io), 75 P33.5 (io), 76 P33.6 (io), 77 P33.7 (io), 78 P33.8 (io), 79 P33.9 (io), 80 P33.10 (io), 81 P33.11 (io), 82 P33.12 (io), 83 P33.13 (io), 84 P32.0/VGATE1N (io), 86 P32.2 (io), 87 P32.3 (io), 88 P32.4 (io), 89 P23.0 (io), 90 P23.1 (io), 91 P23.2 (io), 92 P23.3 (io), 93 P23.4 (io), 94 P23.5 (io), 95 P22.0 (io), 96 P22.1 (io), 97 P22.2 (io), 98 P22.3 (io), 105 P21.0 (io), 106 P21.1 (io), 107 P21.2 (io), 108 P21.3 (io), 109 P21.4 (io), 110 P21.5 (io), 111 P21.6/TDI (io), 113 P21.7/TDO (io), 116 P20.0 (io), 117 P20.1 (io), 118 P20.2/~{TESTMODE} (in), 119 P20.3 (io), 124 P20.6 (io), 125 P20.7 (io), 126 P20.8 (io), 127 P20.9 (io), 128 P20.10 (io), 129 P20.11 (io), 130 P20.12 (io), 131 P20.13 (io), 132 P20.14 (io), 133 P15.0 (io), 134 P15.1 (io), 135 P15.2 (io), 136 P15.3 (io), 137 P15.4 (io), 138 P15.5 (io), 139 P15.6 (io), 140 P15.7 (io), 141 P15.8 (io), 142 P14.0 (io), 143 P14.1 (io), 144 P14.2 (io), 145 P14.3 (io), 146 P14.4 (io), 147 P14.5 (io), 148 P14.6 (io), 149 P14.7 (io), 150 P14.8 (io), 151 P14.9 (io), 152 P14.10 (io), 156 P13.0 (io), 157 P13.1 (io), 158 P13.2 (io), 159 P13.3 (io), 160 P11.2 (io), 161 P11.3 (io), 162 P11.6 (io), 163 P11.9 (io), 165 P11.10 (io), 166 P11.11 (io), 167 P11.12 (io), 168 P10.0 (io), 169 P10.1 (io), 170 P10.2 (io), 171 P10.3 (io), 172 P10.4 (io), 173 P10.5 (io), 174 P10.6 (io), 175 P10.7 (io), 176 P10.8 (io)
part B pins: 28 AN47 (in), 29 AN46 (in), 30 AN45 (in), 31 AN44 (in), 36 AN35 (in), 39 AN29 (in), 40 AN28 (in), 45 AN21 (in), 46 AN20 (in), 47 AN19 (in), 48 AN18 (in), 49 AN17 (in), 50 AN16 (in), 55 AN13 (in), 56 AN12 (in), 57 AN11 (in), 58 AN10 (in), 59 AN8 (in), 60 AN7 (in), 61 AN6 (in), 62 AN5 (in), 63 AN4 (in), 64 AN3 (in), 65 AN2 (in), 66 AN1 (in), 67 AN0 (in), 85 VGATE1P (out), 102 XTAL1, 103 XTAL2, 112 TMS (io), 114 ~{TRST} (in), 115 TCK (in), 120 ~{ESR1} (io), 121 ~{PORST} (in), 122 ~{ESR0} (io)
part C pins: 10 VDD/VDDSB (power), 24 VDD (power), 25 VEXT (power), 26 VAREF2 (power), 27 VAGND2 (power), 51 VAGND1 (power), 52 VAREF1 (power), 53 VSSM (power), 54 VDDM (power), 68 VDD (power), 69 VEXT (power), 99 VEXT (power), 100 VDD (power), 101 VSS (power), 104 VDDP3 (power), 123 VDD (power), 153 VEXT (power), 154 VDDP3 (power), 155 VDDFL3 (power), 164 VFLEX (power), 177 EP

## SAK-TC277T-64F200S CA
designator U?
32-bit multi-core TriCore AURIX microcontroller with 472 KB SRAM, 4 MB Flash, 200 MHz Frequency, -40 to 125 degC, PG-LFBGA-292; Manufacturer: Infineon; ADC Chan.: 60; CAN FD: Yes; Core 0 TC16E DSPR (KB): 112; Core 0 TC16E PSPR (KB): 24; Core 1&2 TC16P DSPR (KB): 120; Core 1&2 TC16P PSPR (KB): 32; EEPROM (KB): 64 @ 500k; Flash (MB): 4; FlexRay (#/ch.): 1 / 2; Freq. (MHz): 200; HSM: No; Total SRAM (KB): 472; Derivative: SAK-TC277T-64F200S CA; DatasheetVersion: Rev. 0.71; PackageReference: PG-LFBGA-292-6; PackageDescription: 292-Pin Plastic (Green) Low Profile Fine Pitch Ball Grid Array Package, 17 x 17 mm Body, 0.8 mm Pitch; Supplier 1: Mouser; Supplier Part Number 1: 726-TC277T64F200SCAK; ETH: Yes; LMU (KB): 32; Supplier Part Reference: TC277T64F200SCAKXUMA1; Mounting Technology: Surface Mount; PartNumber: SAK-TC277T-64F200S CA; ComponentLink1Description: Manufacturer URL; ComponentLink1URL: http://www.infineon.com/
footprint INF-PG-LFBGA-292-6 (BGA, 292-Balls, Body 17x17mm, Pitch 0.8mm)
part A pins: A3 P10.7 (io), A4 P10.6 (io), A5 P10.2 (io), A6 P10.3 (io), A7 P10.0 (io), A8 P11.11 (io), A9 P11.9 (io), A10 P11.2 (io), A11 P13.3 (io), A12 P13.1 (io), A13 P14.8 (io), A14 P14.5 (io), A15 P14.1 (io), A16 P15.6 (io), A17 P15.4 (io), A18 P15.1 (io), B1 P02.0 (io), B4 P10.8 (io), B5 P10.5 (io), B6 P10.4 (io), B7 P10.1 (io), B8 P11.12 (io), B9 P11.10 (io), B10 P11.3 (io), B11 P13.2 (io), B12 P13.0 (io), B13 P14.6 (io), B14 P14.3 (io), B15 P14.4 (io), B16 P14.0 (io), B17 P15.3 (io), B20 P15.0 (io), C1 P02.2 (io), C2 P02.1 (io), C19 P15.2 (io), D1 P02.4 (io), D2 P02.3 (io), D6 P11.15 (io), D7 P11.14 (io), D8 P11.5 (io), D9 P11.6 (io), D10 P11.4 (io), D11 P14.10 (io), D12 P14.9 (io), D13 P14.7 (io), D14 P15.8 (io), D15 P15.7 (io), E1 P02.6 (io), E2 P02.5 (io), E4 P02.9 (io), E6 P11.13 (io), E7 P11.8 (io), E8 P11.7 (io), E9 P11.1 (io), E10 P11.0 (io), E11 P12.1 (io), E12 P12.0 (io), E13 P14.2 (io), E14 P15.5 (io), F1 P02.8 (io), F2 P02.7 (io), F4 P02.11 (io), F5 P02.10 (io), G1 P00.0 (io), G2 P00.1 (io), G4 P01.4 (io), G5 P01.3 (io), H1 P00.2 (io), H2 P00.3 (io), H4 P01.6 (io), H5 P01.5 (io), J1 P00.4 (io), J2 P00.5 (io), J4 P00.6 (io), J5 P01.7 (io), K1 P00.7 (io), K2 P00.9 (io), K4 P00.8 (io), K5 P00.10 (io), L1 P00.11 (io), L2 P00.12 (io)
part B pins: C20 P20.14 (io), D19 P20.12 (io), D20 P20.13 (io), E17 P20.9 (io), E19 P20.10 (io), E20 P20.11 (io), F17 P20.6 (io), F19 P20.7 (io), F20 P20.8 (io), G19 P20.1 (io), G20 P20.3 (io), H16 P21.7 (io), H17 P21.6 (io), H19 P20.2 (in), H20 P20.0 (io), J17 P21.1 (io), J19 P21.3 (io), J20 P21.5 (io), K17 P21.0 (io), K19 P21.2 (io), K20 P21.4 (io), L16 P22.10 (io), L17 P22.11 (io), M16 P22.8 (io), M17 P22.9 (io), N4 P40.6 (in), N5 P40.8 (in), N16 P22.6 (io), N17 P22.7 (io), P1 P40.9 (in), P2 P40.7 (in), P4 P40.4 (in), P16 P22.4 (io), P17 P22.5 (io), P19 P22.1 (io), P20 P22.0 (io), R1 P40.5 (in), R16 P23.7 (io), R17 P23.6 (io), R19 P22.3 (io), R20 P22.2 (io), T12 P34.2 (io), T13 P34.4 (io), T14 P33.14 (io), T15 P32.5 (io), T17 P23.5 (io), T19 P23.3 (io), T20 P23.4 (io), U11 P34.1 (io), U12 P34.3 (io), U13 P34.5 (io), U14 P33.15 (io), U15 P32.6 (io), U16 P32.7 (io), U19 P23.1 (io), U20 P23.2 (io), V1 P40.3 (in), V2 P40.2 (in), V20 P23.0 (io), W1 P40.1 (in), W2 P40.0 (in), W10 P33.0 (io), W11 P33.2 (io), W12 P33.4 (io), W13 P33.6 (io), W14 P33.8 (io), W15 P33.10 (io), W16 P33.12 (io), W18 P32.4 (io), Y10 P33.1 (io), Y11 P33.3 (io), Y12 P33.5 (io), Y13 P33.7 (io), Y14 P33.9 (io), Y15 P33.11 (io), Y16 P33.13 (io), Y17 P32.0 (io), Y18 P32.2 (io), Y19 P32.3 (io)
part C pins: A1 NC, F16 ~{ESR0} (io), G16 ~{ESR1} (io), G17 ~{PORST} (in), J16 TCK (in), K16 TMS (io), L4 AN43 (in), L5 AN42 (in), L19 ~{TRST} (in), M1 AN46 (in), M2 AN47 (in), M4 AN41 (in), M5 AN40 (in), M19 XTAL2, M20 XTAL1, N1 AN44 (in), N2 AN45 (in), P5 AN34 (in), R2 AN35 (in), R4 AN31 (in), R5 AN23 (in), T4 AN30 (in), T5 AN22 (in), T6 AN15 (in), T7 AN12 (in), T8 AN6 (in), T9 AN4 (in), T10 AN0 (in), U1 AN29 (in), U2 AN28 (in), U4 NC, U5 AN17 (in), U6 AN14 (in), U7 AN9 (in), U8 AN7 (in), U9 AN3 (in), U10 AN1 (in), W3 AN19 (in), W4 AN18 (in), W5 AN16 (in), W6 AN13 (in), W7 AN11 (in), W8 AN8 (in), W9 AN2 (in), W17 VGATE1P (out), Y1 NC, Y2 AN21 (in), Y3 AN20 (in), Y8 AN10 (in), Y9 AN5 (in)
part D pins: A2 VEXT (power), A19 VDDP3 (power), A20 VSS (power), B2 VSS (power), B3 VEXT (power), B18 VDDP3 (power), B19 VSS (power), D4 VSS (power), D5 VFLEX (power), D16 VDDFL3 (power), D17 VSS (power), E5 VSS (power), E15 VDDFL3 (power), E16 VSS (power), G8 VDD/VDDSB (power), G9 VSS (power), G10 VSS (power), G11 VSS (power), G12 VSS (power), G13 VDD (power), H7 VDD/VDDSB (power), H9 VSS (power), H10 VSS (power), H11 VSS (power), H12 VSS (power), H14 VDD (power), J7 VSS (power), J8 VSS (power), J10 VSS (power), J11 VSS (power), J13 VSS (power), J14 VSS (power), K7 VSS (power), K8 VSS (power), K9 VSS (power), K10 VSS (power), K11 VSS (power), K12 VSS (power), K13 VSS (power), K14 NC/VDDPSB, L7 VSS (power), L8 VSS (power), L9 VSS (power), L10 VSS (power), L11 VSS (power), L12 VSS (power), L13 VSS (power), L14 VSS (power), L20 VSS (power), M7 VSS (power), M8 VSS (power), M10 VSS (power), M11 VSS (power), M13 VSS (power), M14 VSS (power), N7 VDD (power), N9 VSS (power), N10 VSS (power), N11 VSS (power), N12 VSS (power), N14 VDD (power), N19 VDD (power), N20 VDDP3 (power), P8 VDD (power), P9 VSS (power), P10 VSS (power), P11 VSS (power), P12 VSS (power), P13 VDD (power), T1 VAREF2 (power), T2 VAGND2 (power), T11 VEVRSB (power), T16 VSS (power), U17 VSS (power), V19 VEXT (power), W19 VSS (power), W20 VEXT (power), Y4 VSSM (power), Y5 VDDM (power), Y6 VAREF1 (power), Y7 VAGND1 (power), Y20 VSS (power)

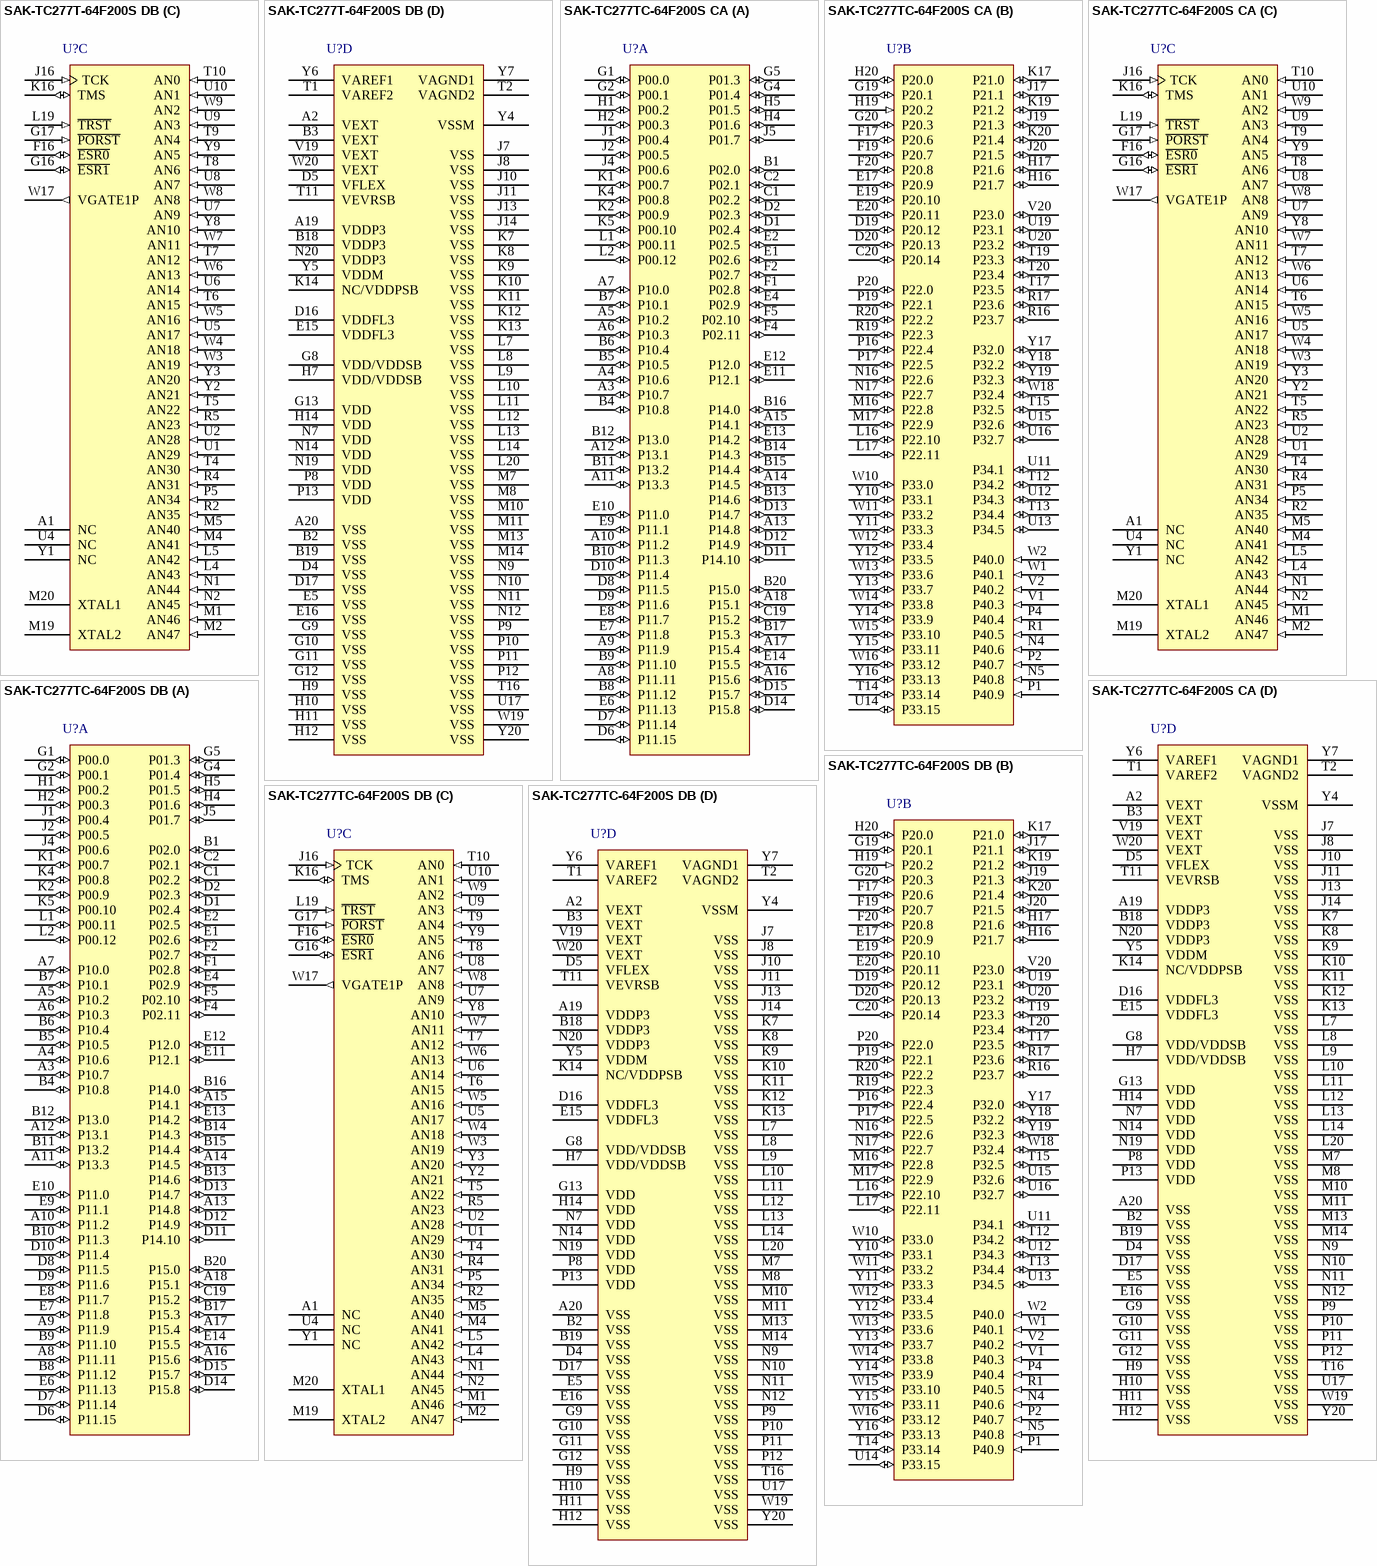
[diagram p15: symbols SAK-TC277T-64F200S DB to SAK-TC277TC-64F200S DB]

## SAK-TC277T-64F200S DB
designator U?
32-bit multi-core TriCore AURIX microcontroller with 472 KB SRAM, 4 MB Flash, 200 MHz Frequency, -40 to 125 degC, PG-LFBGA-292; Manufacturer: Infineon; ADC Chan.: 60; CAN FD: Yes; Core 0 TC16E DSPR (KB): 112; Core 0 TC16E PSPR (KB): 24; Core 1&2 TC16P DSPR (KB): 120; Core 1&2 TC16P PSPR (KB): 32; EEPROM (KB): 64 @ 500k; Flash (MB): 4; FlexRay (#/ch.): 1 / 2; Freq. (MHz): 200; HSM: No; Total SRAM (KB): 472; Derivative: SAK-TC277T-64F200S DB; DatasheetVersion: Rev. 0.7; PackageReference: PG-LFBGA-292-6; PackageDescription: 292-Pin Plastic (Green) Low Profile Fine Pitch Ball Grid Array Package, 17 x 17 mm Body, 0.8 mm Pitch; ETH: Yes; LMU (KB): 32; Supplier Part Reference: TC277T64F200SDBKXUMA1; Mounting Technology: Surface Mount; PartNumber: SAK-TC277T-64F200S DB; ComponentLink1Description: Manufacturer URL; ComponentLink1URL: http://www.infineon.com/
footprint INF-PG-LFBGA-292-6 (BGA, 292-Balls, Body 17x17mm, Pitch 0.8mm)
part A pins: A3 P10.7 (io), A4 P10.6 (io), A5 P10.2 (io), A6 P10.3 (io), A7 P10.0 (io), A8 P11.11 (io), A9 P11.9 (io), A10 P11.2 (io), A11 P13.3 (io), A12 P13.1 (io), A13 P14.8 (io), A14 P14.5 (io), A15 P14.1 (io), A16 P15.6 (io), A17 P15.4 (io), A18 P15.1 (io), B1 P02.0 (io), B4 P10.8 (io), B5 P10.5 (io), B6 P10.4 (io), B7 P10.1 (io), B8 P11.12 (io), B9 P11.10 (io), B10 P11.3 (io), B11 P13.2 (io), B12 P13.0 (io), B13 P14.6 (io), B14 P14.3 (io), B15 P14.4 (io), B16 P14.0 (io), B17 P15.3 (io), B20 P15.0 (io), C1 P02.2 (io), C2 P02.1 (io), C19 P15.2 (io), D1 P02.4 (io), D2 P02.3 (io), D6 P11.15 (io), D7 P11.14 (io), D8 P11.5 (io), D9 P11.6 (io), D10 P11.4 (io), D11 P14.10 (io), D12 P14.9 (io), D13 P14.7 (io), D14 P15.8 (io), D15 P15.7 (io), E1 P02.6 (io), E2 P02.5 (io), E4 P02.9 (io), E6 P11.13 (io), E7 P11.8 (io), E8 P11.7 (io), E9 P11.1 (io), E10 P11.0 (io), E11 P12.1 (io), E12 P12.0 (io), E13 P14.2 (io), E14 P15.5 (io), F1 P02.8 (io), F2 P02.7 (io), F4 P02.11 (io), F5 P02.10 (io), G1 P00.0 (io), G2 P00.1 (io), G4 P01.4 (io), G5 P01.3 (io), H1 P00.2 (io), H2 P00.3 (io), H4 P01.6 (io), H5 P01.5 (io), J1 P00.4 (io), J2 P00.5 (io), J4 P00.6 (io), J5 P01.7 (io), K1 P00.7 (io), K2 P00.9 (io), K4 P00.8 (io), K5 P00.10 (io), L1 P00.11 (io), L2 P00.12 (io)
part B pins: C20 P20.14 (io), D19 P20.12 (io), D20 P20.13 (io), E17 P20.9 (io), E19 P20.10 (io), E20 P20.11 (io), F17 P20.6 (io), F19 P20.7 (io), F20 P20.8 (io), G19 P20.1 (io), G20 P20.3 (io), H16 P21.7 (io), H17 P21.6 (io), H19 P20.2 (in), H20 P20.0 (io), J17 P21.1 (io), J19 P21.3 (io), J20 P21.5 (io), K17 P21.0 (io), K19 P21.2 (io), K20 P21.4 (io), L16 P22.10 (io), L17 P22.11 (io), M16 P22.8 (io), M17 P22.9 (io), N4 P40.6 (in), N5 P40.8 (in), N16 P22.6 (io), N17 P22.7 (io), P1 P40.9 (in), P2 P40.7 (in), P4 P40.4 (in), P16 P22.4 (io), P17 P22.5 (io), P19 P22.1 (io), P20 P22.0 (io), R1 P40.5 (in), R16 P23.7 (io), R17 P23.6 (io), R19 P22.3 (io), R20 P22.2 (io), T12 P34.2 (io), T13 P34.4 (io), T14 P33.14 (io), T15 P32.5 (io), T17 P23.5 (io), T19 P23.3 (io), T20 P23.4 (io), U11 P34.1 (io), U12 P34.3 (io), U13 P34.5 (io), U14 P33.15 (io), U15 P32.6 (io), U16 P32.7 (io), U19 P23.1 (io), U20 P23.2 (io), V1 P40.3 (in), V2 P40.2 (in), V20 P23.0 (io), W1 P40.1 (in), W2 P40.0 (in), W10 P33.0 (io), W11 P33.2 (io), W12 P33.4 (io), W13 P33.6 (io), W14 P33.8 (io), W15 P33.10 (io), W16 P33.12 (io), W18 P32.4 (io), Y10 P33.1 (io), Y11 P33.3 (io), Y12 P33.5 (io), Y13 P33.7 (io), Y14 P33.9 (io), Y15 P33.11 (io), Y16 P33.13 (io), Y17 P32.0 (io), Y18 P32.2 (io), Y19 P32.3 (io)
part C pins: A1 NC, F16 ~{ESR0} (io), G16 ~{ESR1} (io), G17 ~{PORST} (in), J16 TCK (in), K16 TMS (io), L4 AN43 (in), L5 AN42 (in), L19 ~{TRST} (in), M1 AN46 (in), M2 AN47 (in), M4 AN41 (in), M5 AN40 (in), M19 XTAL2, M20 XTAL1, N1 AN44 (in), N2 AN45 (in), P5 AN34 (in), R2 AN35 (in), R4 AN31 (in), R5 AN23 (in), T4 AN30 (in), T5 AN22 (in), T6 AN15 (in), T7 AN12 (in), T8 AN6 (in), T9 AN4 (in), T10 AN0 (in), U1 AN29 (in), U2 AN28 (in), U4 NC, U5 AN17 (in), U6 AN14 (in), U7 AN9 (in), U8 AN7 (in), U9 AN3 (in), U10 AN1 (in), W3 AN19 (in), W4 AN18 (in), W5 AN16 (in), W6 AN13 (in), W7 AN11 (in), W8 AN8 (in), W9 AN2 (in), W17 VGATE1P (out), Y1 NC, Y2 AN21 (in), Y3 AN20 (in), Y8 AN10 (in), Y9 AN5 (in)
part D pins: A2 VEXT (power), A19 VDDP3 (power), A20 VSS (power), B2 VSS (power), B3 VEXT (power), B18 VDDP3 (power), B19 VSS (power), D4 VSS (power), D5 VFLEX (power), D16 VDDFL3 (power), D17 VSS (power), E5 VSS (power), E15 VDDFL3 (power), E16 VSS (power), G8 VDD/VDDSB (power), G9 VSS (power), G10 VSS (power), G11 VSS (power), G12 VSS (power), G13 VDD (power), H7 VDD/VDDSB (power), H9 VSS (power), H10 VSS (power), H11 VSS (power), H12 VSS (power), H14 VDD (power), J7 VSS (power), J8 VSS (power), J10 VSS (power), J11 VSS (power), J13 VSS (power), J14 VSS (power), K7 VSS (power), K8 VSS (power), K9 VSS (power), K10 VSS (power), K11 VSS (power), K12 VSS (power), K13 VSS (power), K14 NC/VDDPSB, L7 VSS (power), L8 VSS (power), L9 VSS (power), L10 VSS (power), L11 VSS (power), L12 VSS (power), L13 VSS (power), L14 VSS (power), L20 VSS (power), M7 VSS (power), M8 VSS (power), M10 VSS (power), M11 VSS (power), M13 VSS (power), M14 VSS (power), N7 VDD (power), N9 VSS (power), N10 VSS (power), N11 VSS (power), N12 VSS (power), N14 VDD (power), N19 VDD (power), N20 VDDP3 (power), P8 VDD (power), P9 VSS (power), P10 VSS (power), P11 VSS (power), P12 VSS (power), P13 VDD (power), T1 VAREF2 (power), T2 VAGND2 (power), T11 VEVRSB (power), T16 VSS (power), U17 VSS (power), V19 VEXT (power), W19 VSS (power), W20 VEXT (power), Y4 VSSM (power), Y5 VDDM (power), Y6 VAREF1 (power), Y7 VAGND1 (power), Y20 VSS (power)

## SAK-TC277TC-64F200S CA
designator U?
32-bit multi-core TriCore AURIX microcontroller with 424 KB SRAM, 4 MB Flash, 200 MHz Frequency, -40 to 125 degC, PG-LFBGA-292; Manufacturer: Infineon; ADC Chan.: 60; CAN FD: No; Core 0 TC16E DSPR (KB): 112; Core 0 TC16E PSPR (KB): 24; Core 1&2 TC16P DSPR (KB): 120; EEPROM (KB): 24 @ 500k; Flash (MB): 4; FlexRay (#/ch.): 1 / 2; Freq. (MHz): 200; HSM: Yes; Total SRAM (KB): 424; Derivative: SAK-TC277TC-64F200S CA; DatasheetVersion: Rev. 0.71; PackageReference: PG-LFBGA-292-6; PackageDescription: 292-Pin Plastic (Green) Low Profile Fine Pitch Ball Grid Array Package, 17 x 17 mm Body, 0.8 mm Pitch; Core 1&2 TC16P PSPR (KB): 24; ETH: No; Supplier Part Reference: TC277TC64F200SCAKXUMA1; Mounting Technology: Surface Mount; PartNumber: SAK-TC277TC-64F200S CA; ComponentLink1Description: Manufacturer URL; ComponentLink1URL: http://www.infineon.com/
footprint INF-PG-LFBGA-292-6 (BGA, 292-Balls, Body 17x17mm, Pitch 0.8mm)
part A pins: A3 P10.7 (io), A4 P10.6 (io), A5 P10.2 (io), A6 P10.3 (io), A7 P10.0 (io), A8 P11.11 (io), A9 P11.9 (io), A10 P11.2 (io), A11 P13.3 (io), A12 P13.1 (io), A13 P14.8 (io), A14 P14.5 (io), A15 P14.1 (io), A16 P15.6 (io), A17 P15.4 (io), A18 P15.1 (io), B1 P02.0 (io), B4 P10.8 (io), B5 P10.5 (io), B6 P10.4 (io), B7 P10.1 (io), B8 P11.12 (io), B9 P11.10 (io), B10 P11.3 (io), B11 P13.2 (io), B12 P13.0 (io), B13 P14.6 (io), B14 P14.3 (io), B15 P14.4 (io), B16 P14.0 (io), B17 P15.3 (io), B20 P15.0 (io), C1 P02.2 (io), C2 P02.1 (io), C19 P15.2 (io), D1 P02.4 (io), D2 P02.3 (io), D6 P11.15 (io), D7 P11.14 (io), D8 P11.5 (io), D9 P11.6 (io), D10 P11.4 (io), D11 P14.10 (io), D12 P14.9 (io), D13 P14.7 (io), D14 P15.8 (io), D15 P15.7 (io), E1 P02.6 (io), E2 P02.5 (io), E4 P02.9 (io), E6 P11.13 (io), E7 P11.8 (io), E8 P11.7 (io), E9 P11.1 (io), E10 P11.0 (io), E11 P12.1 (io), E12 P12.0 (io), E13 P14.2 (io), E14 P15.5 (io), F1 P02.8 (io), F2 P02.7 (io), F4 P02.11 (io), F5 P02.10 (io), G1 P00.0 (io), G2 P00.1 (io), G4 P01.4 (io), G5 P01.3 (io), H1 P00.2 (io), H2 P00.3 (io), H4 P01.6 (io), H5 P01.5 (io), J1 P00.4 (io), J2 P00.5 (io), J4 P00.6 (io), J5 P01.7 (io), K1 P00.7 (io), K2 P00.9 (io), K4 P00.8 (io), K5 P00.10 (io), L1 P00.11 (io), L2 P00.12 (io)
part B pins: C20 P20.14 (io), D19 P20.12 (io), D20 P20.13 (io), E17 P20.9 (io), E19 P20.10 (io), E20 P20.11 (io), F17 P20.6 (io), F19 P20.7 (io), F20 P20.8 (io), G19 P20.1 (io), G20 P20.3 (io), H16 P21.7 (io), H17 P21.6 (io), H19 P20.2 (in), H20 P20.0 (io), J17 P21.1 (io), J19 P21.3 (io), J20 P21.5 (io), K17 P21.0 (io), K19 P21.2 (io), K20 P21.4 (io), L16 P22.10 (io), L17 P22.11 (io), M16 P22.8 (io), M17 P22.9 (io), N4 P40.6 (in), N5 P40.8 (in), N16 P22.6 (io), N17 P22.7 (io), P1 P40.9 (in), P2 P40.7 (in), P4 P40.4 (in), P16 P22.4 (io), P17 P22.5 (io), P19 P22.1 (io), P20 P22.0 (io), R1 P40.5 (in), R16 P23.7 (io), R17 P23.6 (io), R19 P22.3 (io), R20 P22.2 (io), T12 P34.2 (io), T13 P34.4 (io), T14 P33.14 (io), T15 P32.5 (io), T17 P23.5 (io), T19 P23.3 (io), T20 P23.4 (io), U11 P34.1 (io), U12 P34.3 (io), U13 P34.5 (io), U14 P33.15 (io), U15 P32.6 (io), U16 P32.7 (io), U19 P23.1 (io), U20 P23.2 (io), V1 P40.3 (in), V2 P40.2 (in), V20 P23.0 (io), W1 P40.1 (in), W2 P40.0 (in), W10 P33.0 (io), W11 P33.2 (io), W12 P33.4 (io), W13 P33.6 (io), W14 P33.8 (io), W15 P33.10 (io), W16 P33.12 (io), W18 P32.4 (io), Y10 P33.1 (io), Y11 P33.3 (io), Y12 P33.5 (io), Y13 P33.7 (io), Y14 P33.9 (io), Y15 P33.11 (io), Y16 P33.13 (io), Y17 P32.0 (io), Y18 P32.2 (io), Y19 P32.3 (io)
part C pins: A1 NC, F16 ~{ESR0} (io), G16 ~{ESR1} (io), G17 ~{PORST} (in), J16 TCK (in), K16 TMS (io), L4 AN43 (in), L5 AN42 (in), L19 ~{TRST} (in), M1 AN46 (in), M2 AN47 (in), M4 AN41 (in), M5 AN40 (in), M19 XTAL2, M20 XTAL1, N1 AN44 (in), N2 AN45 (in), P5 AN34 (in), R2 AN35 (in), R4 AN31 (in), R5 AN23 (in), T4 AN30 (in), T5 AN22 (in), T6 AN15 (in), T7 AN12 (in), T8 AN6 (in), T9 AN4 (in), T10 AN0 (in), U1 AN29 (in), U2 AN28 (in), U4 NC, U5 AN17 (in), U6 AN14 (in), U7 AN9 (in), U8 AN7 (in), U9 AN3 (in), U10 AN1 (in), W3 AN19 (in), W4 AN18 (in), W5 AN16 (in), W6 AN13 (in), W7 AN11 (in), W8 AN8 (in), W9 AN2 (in), W17 VGATE1P (out), Y1 NC, Y2 AN21 (in), Y3 AN20 (in), Y8 AN10 (in), Y9 AN5 (in)
part D pins: A2 VEXT (power), A19 VDDP3 (power), A20 VSS (power), B2 VSS (power), B3 VEXT (power), B18 VDDP3 (power), B19 VSS (power), D4 VSS (power), D5 VFLEX (power), D16 VDDFL3 (power), D17 VSS (power), E5 VSS (power), E15 VDDFL3 (power), E16 VSS (power), G8 VDD/VDDSB (power), G9 VSS (power), G10 VSS (power), G11 VSS (power), G12 VSS (power), G13 VDD (power), H7 VDD/VDDSB (power), H9 VSS (power), H10 VSS (power), H11 VSS (power), H12 VSS (power), H14 VDD (power), J7 VSS (power), J8 VSS (power), J10 VSS (power), J11 VSS (power), J13 VSS (power), J14 VSS (power), K7 VSS (power), K8 VSS (power), K9 VSS (power), K10 VSS (power), K11 VSS (power), K12 VSS (power), K13 VSS (power), K14 NC/VDDPSB, L7 VSS (power), L8 VSS (power), L9 VSS (power), L10 VSS (power), L11 VSS (power), L12 VSS (power), L13 VSS (power), L14 VSS (power), L20 VSS (power), M7 VSS (power), M8 VSS (power), M10 VSS (power), M11 VSS (power), M13 VSS (power), M14 VSS (power), N7 VDD (power), N9 VSS (power), N10 VSS (power), N11 VSS (power), N12 VSS (power), N14 VDD (power), N19 VDD (power), N20 VDDP3 (power), P8 VDD (power), P9 VSS (power), P10 VSS (power), P11 VSS (power), P12 VSS (power), P13 VDD (power), T1 VAREF2 (power), T2 VAGND2 (power), T11 VEVRSB (power), T16 VSS (power), U17 VSS (power), V19 VEXT (power), W19 VSS (power), W20 VEXT (power), Y4 VSSM (power), Y5 VDDM (power), Y6 VAREF1 (power), Y7 VAGND1 (power), Y20 VSS (power)